# Altium schematic symbol library Connectors_Old.SchLib: 239 symbols (part 3 of 4)
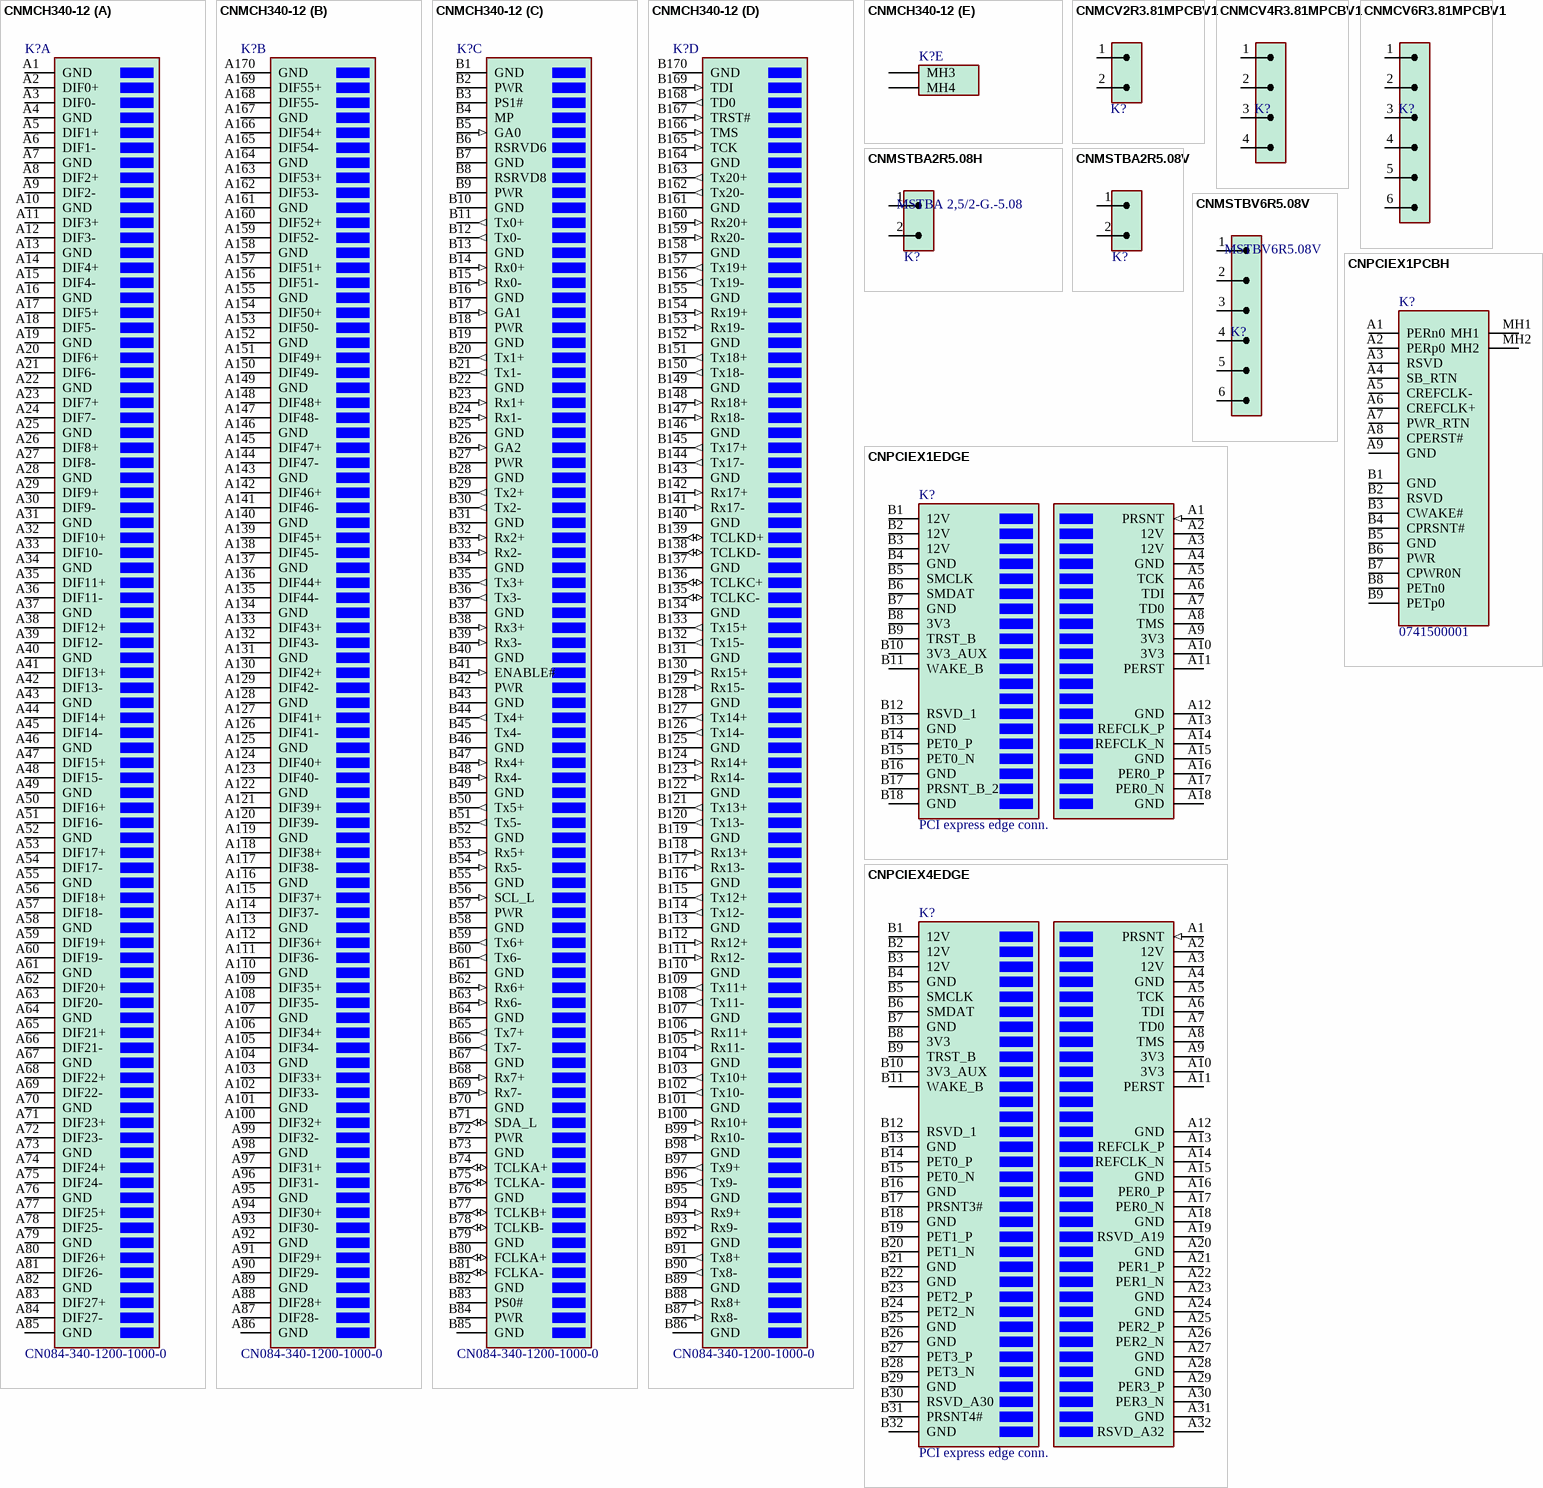
[diagram p18: symbols CNMCH340-12 to CNPCIEX4EDGE]

## CNMCH340-12
designator K?, comment CN084-340-1200-1000-0
MCH plug connector 340 pin; Manufacturer: Yamaichi; Sort: 610; Tech: MECH; Manufacturer No: CN084-340-1200-1000-0; Package: MCH connector 12; Price: 0
signal-integrity model Model Name (Model Description)
footprint CNMCH340 (MCH-2 horizontal connector plug 340 pin)
part A pins: A1 GND (power), A2 DIF0+, A3 DIF0-, A4 GND (power), A5 DIF1+, A6 DIF1-, A7 GND (power), A8 DIF2+, A9 DIF2-, A10 GND (power), A11 DIF3+, A12 DIF3-, A13 GND (power), A14 DIF4+, A15 DIF4-, A16 GND (power), A17 DIF5+, A18 DIF5-, A19 GND (power), A20 DIF6+, A21 DIF6-, A22 GND (power), A23 DIF7+, A24 DIF7-, A25 GND (power), A26 DIF8+, A27 DIF8-, A28 GND (power), A29 DIF9+, A30 DIF9-, A31 GND (power), A32 DIF10+, A33 DIF10-, A34 GND (power), A35 DIF11+, A36 DIF11-, A37 GND (power), A38 DIF12+, A39 DIF12-, A40 GND (power), A41 DIF13+, A42 DIF13-, A43 GND (power), A44 DIF14+, A45 DIF14-, A46 GND (power), A47 DIF15+, A48 DIF15-, A49 GND (power), A50 DIF16+, A51 DIF16-, A52 GND (power), A53 DIF17+, A54 DIF17-, A55 GND (power), A56 DIF18+, A57 DIF18-, A58 GND (power), A59 DIF19+, A60 DIF19-, A61 GND (power), A62 DIF20+, A63 DIF20-, A64 GND (power), A65 DIF21+, A66 DIF21-, A67 GND (power), A68 DIF22+, A69 DIF22-, A70 GND (power), A71 DIF23+, A72 DIF23-, A73 GND (power), A74 DIF24+, A75 DIF24-, A76 GND (power), A77 DIF25+, A78 DIF25-, A79 GND (power), A80 DIF26+, A81 DIF26-, A82 GND (power), A83 DIF27+, A84 DIF27-, A85 GND (power)
part B pins: A86 GND (power), A87 DIF28-, A88 DIF28+, A89 GND (power), A90 DIF29-, A91 DIF29+, A92 GND (power), A93 DIF30-, A94 DIF30+, A95 GND (power), A96 DIF31-, A97 DIF31+, A98 GND (power), A99 DIF32-, A100 DIF32+, A101 GND (power), A102 DIF33-, A103 DIF33+, A104 GND (power), A105 DIF34-, A106 DIF34+, A107 GND (power), A108 DIF35-, A109 DIF35+, A110 GND (power), A111 DIF36-, A112 DIF36+, A113 GND (power), A114 DIF37-, A115 DIF37+, A116 GND (power), A117 DIF38-, A118 DIF38+, A119 GND (power), A120 DIF39-, A121 DIF39+, A122 GND (power), A123 DIF40-, A124 DIF40+, A125 GND (power), A126 DIF41-, A127 DIF41+, A128 GND (power), A129 DIF42-, A130 DIF42+, A131 GND (power), A132 DIF43-, A133 DIF43+, A134 GND (power), A135 DIF44-, A136 DIF44+, A137 GND (power), A138 DIF45-, A139 DIF45+, A140 GND (power), A141 DIF46-, A142 DIF46+, A143 GND (power), A144 DIF47-, A145 DIF47+, A146 GND (power), A147 DIF48-, A148 DIF48+, A149 GND (power), A150 DIF49-, A151 DIF49+, A152 GND (power), A153 DIF50-, A154 DIF50+, A155 GND (power), A156 DIF51-, A157 DIF51+, A158 GND (power), A159 DIF52-, A160 DIF52+, A161 GND (power), A162 DIF53-, A163 DIF53+, A164 GND (power), A165 DIF54-, A166 DIF54+, A167 GND (power), A168 DIF55-, A169 DIF55+, A170 GND (power)
part C pins: B1 GND (power), B2 PWR (power) "12V", B3 PS1# "presence1", B4 MP (power) "3V3", B5 GA0 (in) "Gaddr0", B6 RSRVD6 "reserved", B7 GND (power), B8 RSRVD8 "reserved", B9 PWR (power) "12V", B10 GND (power), B11 Tx0+ (out) "out0", B12 Tx0- (out) "out0", B13 GND (power), B14 Rx0+ (in) "in0", B15 Rx0- (in) "in0", B16 GND (power), B17 GA1 (in) "Gaddr1", B18 PWR (power) "12V", B19 GND (power), B20 Tx1+ (out) "out1", B21 Tx1- (out) "out1", B22 GND (power), B23 Rx1+ (in) "in1", B24 Rx1- (in) "in1", B25 GND (power), B26 GA2 (in) "Gaddr2", B27 PWR (power) "12V", B28 GND (power), B29 Tx2+ (out) "out2", B30 Tx2- (out) "out2", B31 GND (power), B32 Rx2+ (in) "in2", B33 Rx2- (in) "in2", B34 GND (power), B35 Tx3+ (out) "out3", B36 Tx3- (out) "out3", B37 GND (power), B38 Rx3+ (in) "in3", B39 Rx3- (in) "in3", B40 GND (power), B41 ENABLE# (in) "AMC enable", B42 PWR (power) "12V", B43 GND (power), B44 Tx4+ (out) "out4", B45 Tx4- "out4", B46 GND (power), B47 Rx4+ (in) "in4", B48 Rx4- (in) "in4", B49 GND (power), B50 Tx5+ (out) "out5", B51 Tx5- (out) "out5", B52 GND (power), B53 Rx5+ (in) "in5", B54 Rx5- (in) "in5", B55 GND (power), B56 SCL_L (in) "IPMB clock", B57 PWR (power) "12V", B58 GND (power), B59 Tx6+ (out) "out6", B60 Tx6- (out) "out6", B61 GND (power), B62 Rx6+ (in) "in6", B63 Rx6- (in) "in6", B64 GND (power), B65 Tx7+ (out) "out7", B66 Tx7- (out) "out7", B67 GND (power), B68 Rx7+ (in) "in7", B69 Rx7- (in) "in7", B70 GND (power), B71 SDA_L (io) "IPMB data", B72 PWR (power) "12V", B73 GND (power), B74 TCLKA+ (io) "clk", B75 TCLKA- (io) "clk", B76 GND (power), B77 TCLKB+ (io) "clk", B78 TCLKB- (io) "clk", B79 GND (power), B80 FCLKA+ (io) "clk", B81 FCLKA- (io) "clk", B82 GND (power), B83 PS0# "presence0", B84 PWR (power) "12V", B85 GND (power)
part D pins: B86 GND (power), B87 Rx8- (in) "in8", B88 Rx8+ (in) "in8", B89 GND (power), B90 Tx8- (out) "out8", B91 Tx8+ (out) "out8", B92 GND (power), B93 Rx9- (in) "in9", B94 Rx9+ (in) "in9", B95 GND (power), B96 Tx9- (out) "out9", B97 Tx9+ (out) "out9", B98 GND (power), B99 Rx10- (in) "in10", B100 Rx10+ (in) "in10", B101 GND (power), B102 Tx10- (out) "out10", B103 Tx10+ (out) "out10", B104 GND (power), B105 Rx11- (in) "in11", B106 Rx11+ (in) "in11", B107 GND (power), B108 Tx11- (out) "out11", B109 Tx11+ (out) "out11", B110 GND (power), B111 Rx12- (in) "in12", B112 Rx12+ (in) "in12", B113 GND (power), B114 Tx12- (out) "out12", B115 Tx12+ (out) "out12", B116 GND (power), B117 Rx13- (in) "in13", B118 Rx13+ (in) "in13", B119 GND (power), B120 Tx13- (out) "out13", B121 Tx13+ (out) "out13", B122 GND (power), B123 Rx14- (in) "in14", B124 Rx14+ (in) "in14", B125 GND (power), B126 Tx14- (out) "out14", B127 Tx14+ (out) "out14", B128 GND (power), B129 Rx15- (in) "in15", B130 Rx15+ (in) "in15", B131 GND (power), B132 Tx15- (out) "out15", B133 Tx15+ (out) "out15", B134 GND (power), B135 TCLKC- (io) "clk", B136 TCLKC+ (io) "clk", B137 GND (power), B138 TCLKD- (io) "clk", B139 TCLKD+ (io) "clk", B140 GND (power), B141 Rx17- (in) "in17", B142 Rx17+ (in) "in17", B143 GND (power), B144 Tx17- (out) "out17", B145 Tx17+ (out) "out17", B146 GND (power), B147 Rx18- (in) "in18", B148 Rx18+ (in) "in18", B149 GND (power), B150 Tx18- (out) "out18", B151 Tx18+ (out) "out18", B152 GND (power), B153 Rx19- (in) "in19", B154 Rx19+ (in) "in19", B155 GND (power), B156 Tx19- (out) "out19", B157 Tx19+ (out) "out19", B158 GND (power), B159 Rx20- (in) "in20", B160 Rx20+ (in) "in20", B161 GND (power), B162 Tx20- (out) "out20", B163 Tx20+ (out) "out20", B164 GND (power), B165 TCK (in) "in", B166 TMS (in) "in", B167 TRST# (in) "in", B168 TD0 (out) "out", B169 TDI (in) "in", B170 GND (power)
part E pins: ? MH3, ? MH4

## CNMCV2R3.81MPCBV1
designator K?, comment MCV1.5/2-G-3.81  (value not drawn)
Combicon header 2 pin vertical closed R3.81mm; Manufacturer: PhoenixContact; Manufacturer No: 1843606; Sort: 610; Tech: THDW; Price: 0
footprint MCV1.5/2G-3.81 (COMBICON 2 POL VER 3.81mm)
pins: 1, 2

## CNMCV4R3.81MPCBV1
designator K?, comment MCV1.5/4-G-3.81  (value not drawn)
Combicon header 4 pin vertical closed R3.81mm; Manufacturer: PhoenixContact, Farnell; Manufacturer No: 1803442, 3913144; Comment2: 160V, 8A; Sort: 610; Tech: THDW; Package: CN MCV6G; Price: 0.66
footprint MCV1.5/4G-3.81 (COMBICON 4pin vertical  R3.81mm)
pins: 1, 2, 3, 4

## CNMCV6R3.81MPCBV1
designator K?, comment MCV1.5/6-G-3.81  (value not drawn)
Combicon header 6 pin vertical closed R3.81mm; Manufacturer: PhoenixContact, Farnell; Manufacturer No: 1843648, 3704853; Sort: 610; Tech: THDW; Package: CN MCV6G; Price: 0
footprint MCV1.5/6G-3.81 (COMBICON 6 POL VER 3.81mm)
pins: 1, 2, 3, 4, 5, 6

## CNMSTBA2R5.08H
designator K?, comment MSTBA 2,5/2-G.-5.08
Pin Header 1x4 R2.54mm; Manufacturer: Phoenix Contact; Manufacturer No: 17 57 24 2; Sort: 610; Tech: THDW; Package: CN MSTBA2pin; Price: 0
footprint MSTBA/2G-5.08 (MSTBA2.5/2G-5.08  2pin)
pins: 1, 2

## CNMSTBA2R5.08V
designator K?, comment MSTBA2R5.08V  (value not drawn)
Combicon header 2 pin vertical closed R5.08mm; Manufacturer: Phoenix Contact; Manufacturer No: 1755736; Comment2: 12A 300V; Sort: 610; Tech: THDW; Package: MSTBA5.08R; Price: 0.56; Supplier: Digi-Key; Supplier No: 277-1150-ND
footprint CN_PHOENIX_MSTBVA2,5/2-G-5,08 (MSTBVA2,5/2-G-5,08  2pin vertical)
pins: 1, 2

## CNMSTBV6R5.08V
designator K?, comment MSTBV6R5.08V
Combicon header 6 pin vertical closed R5.08mm; Manufacturer: Phoenix Contact; Manufacturer No: 1755778; Comment2: 12A 250V; Sort: 610; Tech: THDW; Package: CN MSTBA3H; Price: 1.67; Supplier: Digi-Key; Supplier No: 277-1154-ND
footprint CN_PHOENIX_MSTBVA2,5/6-G-5,08 (MSTBVA2,5/6-G-5,08  6pin vertical)
pins: 1, 2, 3, 4, 5, 6

## CNPCIEX1EDGE
designator K?, comment PCI express edge conn.  (no BOM)
PCI express edge connector X1; Price: 0
signal-integrity model Model Name (Model Description)
footprint CNPCIEX1EDGE (PCIexpress connector for board edge 2x18 pin (11+7))
pins: A1 PRSNT (in), A2 12V (power), A3 12V (power), A4 GND (power), A5 TCK, A6 TDI, A7 TD0, A8 TMS, A9 3V3 (power), A10 3V3 (power), A11 PERST, A12 GND (power), A13 REFCLK_P, A14 REFCLK_N, A15 GND (power), A16 PER0_P, A17 PER0_N, A18 GND (power), B1 12V (power), B2 12V (power), B3 12V (power), B4 GND (power), B5 SMCLK, B6 SMDAT, B7 GND (power), B8 3V3 (power), B9 TRST_B, B10 3V3_AUX (power), B11 WAKE_B, B12 RSVD_1, B13 GND (power), B14 PET0_P, B15 PET0_N, B16 GND (power), B17 PRSNT_B_2, B18 GND (power)

## CNPCIEX1PCBH
designator K?, comment 0741500001
PCI express X1 18-pin PCB horizontal connector; Manufacturer: Molex; Sort: 610; Tech: SMDR; Manufacturer No: 0741500001; Price: 0
footprint CNPCIE_X1_18H (Connector PCI Express Horizontal female, SMTP; 18 pin; R0.64 mm; Body 30.48 x 13.79 x 7.65 mm (LxWxH))
pins: A1 PERn0, A2 PERp0, A3 RSVD, A4 SB_RTN, A5 CREFCLK-, A6 CREFCLK+, A7 PWR_RTN, A8 CPERST#, A9 GND, B1 GND, B2 RSVD, B3 CWAKE#, B4 CPRSNT#, B5 GND, B6 PWR, B7 CPWR0N, B8 PETn0, B9 PETp0, MH1, MH2

## CNPCIEX4EDGE
designator K?, comment PCI express edge conn.  (no BOM)
PCI express edge connector X4; Price: 0
signal-integrity model Model Name (Model Description)
footprint CNPCIEX4EDGE (PCIexpress connector for board edge 2x18 pin (11+7))
pins: A1 PRSNT (in), A2 12V (power), A3 12V (power), A4 GND (power), A5 TCK, A6 TDI, A7 TD0, A8 TMS, A9 3V3 (power), A10 3V3 (power), A11 PERST, A12 GND (power), A13 REFCLK_P, A14 REFCLK_N, A15 GND (power), A16 PER0_P, A17 PER0_N, A18 GND (power), A19 RSVD_A19, A20 GND (power), A21 PER1_P, A22 PER1_N, A23 GND (power), A24 GND (power), A25 PER2_P, A26 PER2_N, A27 GND (power), A28 GND (power), A29 PER3_P, A30 PER3_N, A31 GND (power), A32 RSVD_A32, B1 12V (power), B2 12V (power), B3 12V (power), B4 GND (power), B5 SMCLK, B6 SMDAT, B7 GND (power), B8 3V3 (power), B9 TRST_B, B10 3V3_AUX (power), B11 WAKE_B, B12 RSVD_1, B13 GND (power), B14 PET0_P, B15 PET0_N, B16 GND (power), B17 PRSNT3#, B18 GND (power), B19 PET1_P, B20 PET1_N, B21 GND (power), B22 GND (power), B23 PET2_P, B24 PET2_N, B25 GND (power), B26 GND (power), B27 PET3_P, B28 PET3_N, B29 GND (power), B30 RSVD_A30, B31 PRSNT4#, B32 GND (power)

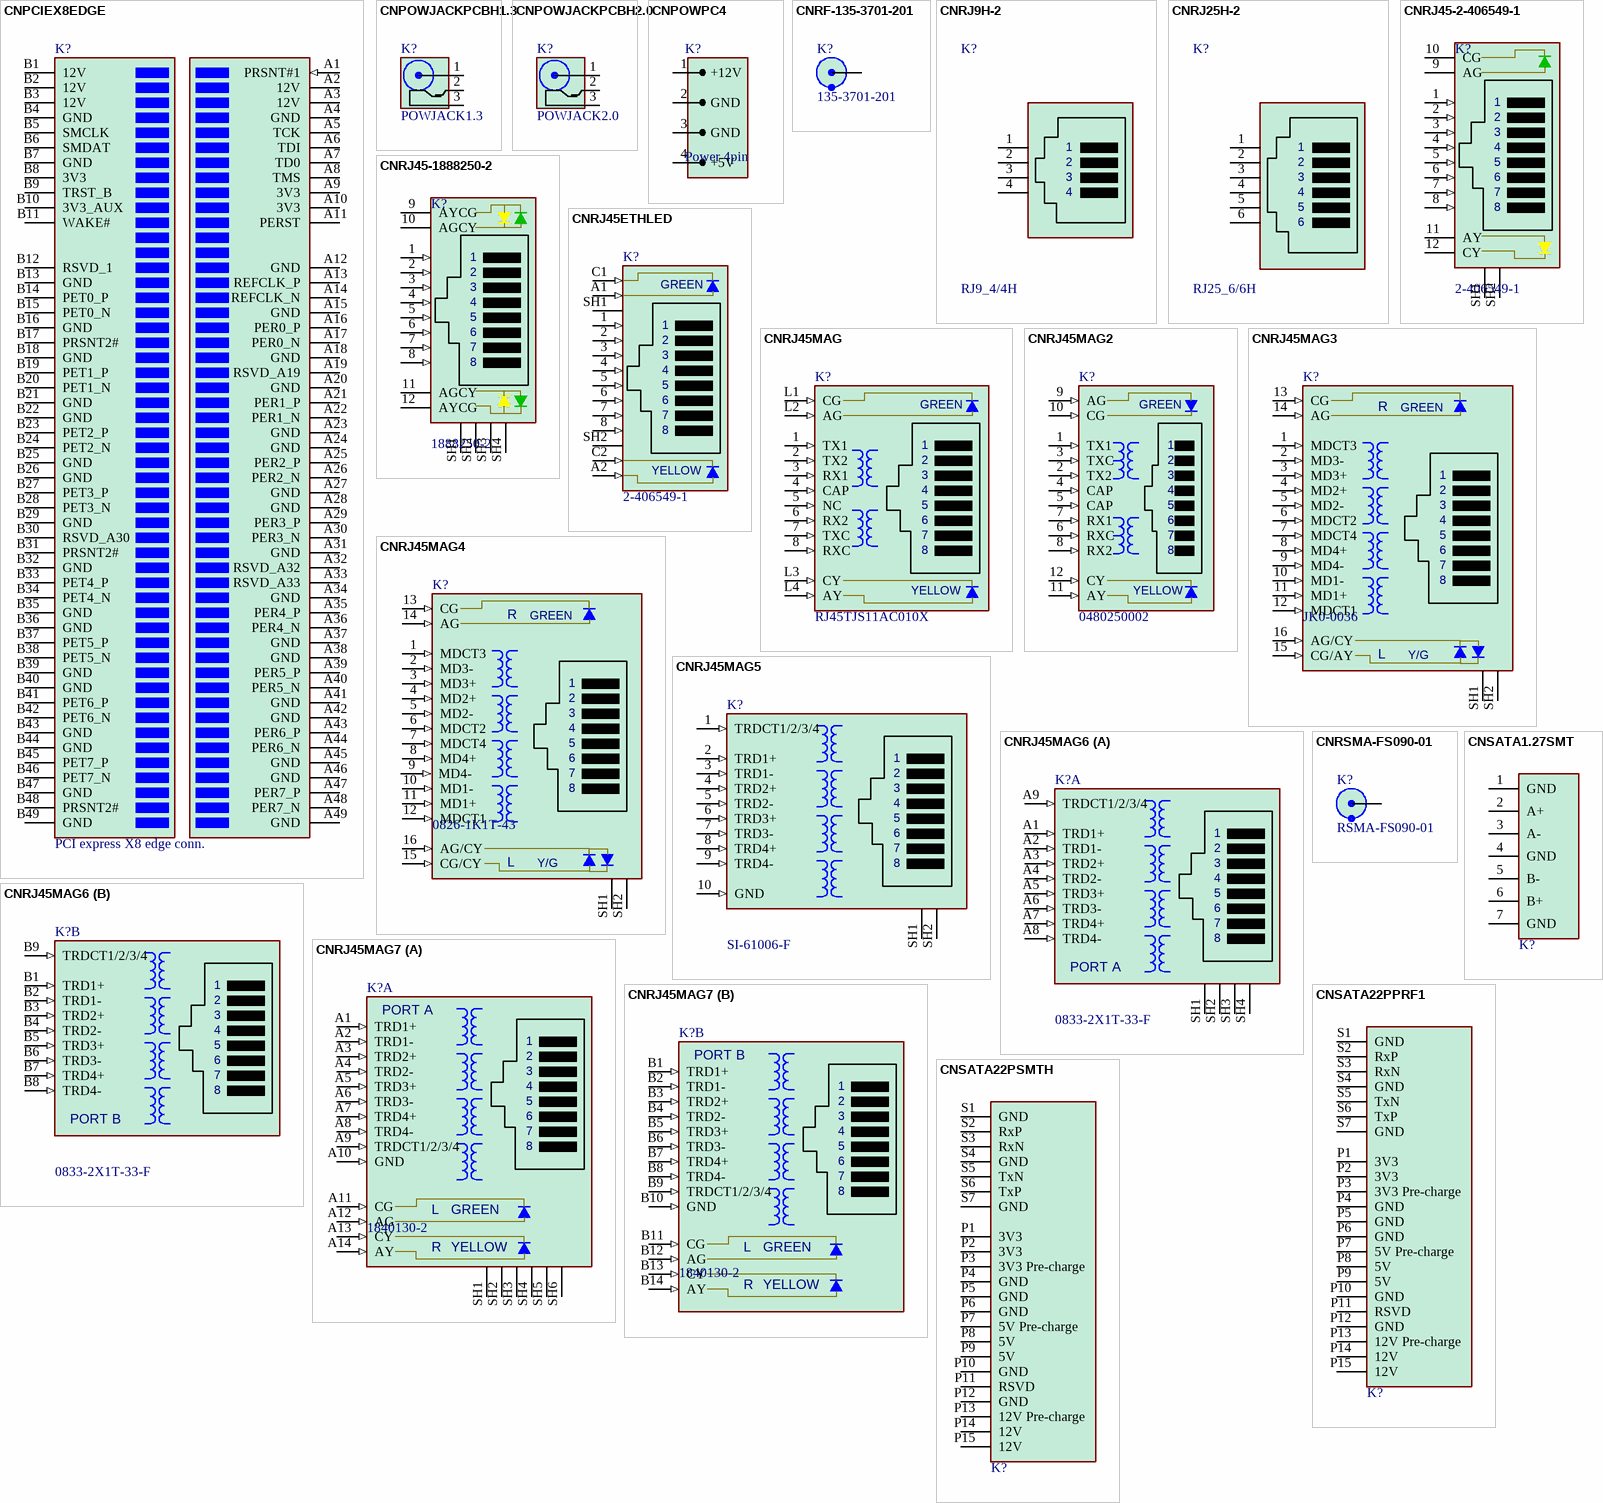
[diagram p12: symbols CNPCIEX8EDGE to CNSATA22PSMTH]

## CNPCIEX8EDGE
designator K?, comment PCI express X8 edge conn.  (no BOM)
PCI express edge connector X8; Price: 0
signal-integrity model Model Name (Model Description)
footprint CNPCIEX8EDGE (PCIexpress connector for board edge 2x49 pin)
pins: A1 PRSNT#1 (in), A2 12V (power), A3 12V (power), A4 GND (power), A5 TCK, A6 TDI, A7 TD0, A8 TMS, A9 3V3 (power), A10 3V3 (power), A11 PERST, A12 GND (power), A13 REFCLK_P, A14 REFCLK_N, A15 GND (power), A16 PER0_P, A17 PER0_N, A18 GND (power), A19 RSVD_A19, A20 GND (power), A21 PER1_P, A22 PER1_N, A23 GND (power), A24 GND (power), A25 PER2_P, A26 PER2_N, A27 GND (power), A28 GND (power), A29 PER3_P, A30 PER3_N, A31 GND (power), A32 RSVD_A32, A33 RSVD_A33, A34 GND (power), A35 PER4_P, A36 PER4_N, A37 GND (power), A38 GND (power), A39 PER5_P, A40 PER5_N, A41 GND (power), A42 GND (power), A43 PER6_P, A44 PER6_N, A45 GND (power), A46 GND (power), A47 PER7_P, A48 PER7_N, A49 GND (power), B1 12V (power), B2 12V (power), B3 12V (power), B4 GND (power), B5 SMCLK, B6 SMDAT, B7 GND (power), B8 3V3 (power), B9 TRST_B, B10 3V3_AUX (power), B11 WAKE#, B12 RSVD_1, B13 GND (power), B14 PET0_P, B15 PET0_N, B16 GND (power), B17 PRSNT2#, B18 GND (power), B19 PET1_P, B20 PET1_N, B21 GND (power), B22 GND (power), B23 PET2_P, B24 PET2_N, B25 GND (power), B26 GND (power), B27 PET3_P, B28 PET3_N, B29 GND (power), B30 RSVD_A30, B31 PRSNT2#, B32 GND (power), B33 PET4_P, B34 PET4_N, B35 GND (power), B36 GND (power), B37 PET5_P, B38 PET5_N, B39 GND (power), B40 GND (power), B41 PET6_P, B42 PET6_N, B43 GND (power), B44 GND (power), B45 PET7_P, B46 PET7_N, B47 GND (power), B48 PRSNT2#, B49 GND (power)

## CNPOWJACKPCBH1.3
designator K?, comment POWJACK1.3
DC power jack 6.5x2mm 9x11x15mm; Manufacturer: Shallin; Sort: 610; Tech: THDW; Price: 0
signal-integrity model Model Name (Model Description)
footprint DCPOWJACK1.3 (DC POWER JACK 11.5x5x7.5x1.3mm)
pins: 1, 2, 3

## CNPOWJACKPCBH2.0
designator K?, comment POWJACK2.0
DC power jack 6.5x2mm 9x11x15mm; Manufacturer No: K375A; Manufacturer: Shallin; Sort: 610; Tech: THDW; Price: 0
signal-integrity model Model Name (Model Description)
footprint DCPOWJACK2.0 (DC POWER JACK 9X11X15 6.5X2mm)
pins: 1, 2, 3

## CNPOWPC4
designator K?, comment Power 4pin
Connector PC power 4 pin for disc; Manufacturer: Molex; Sort: 610; Tech: THDW; Manufacturer No: 15-24-4449; Price: 0
footprint CNPC4POWV (PC power  connector 4 pin)
pins: 1 +12V (power), 2 GND (power), 3 GND (power), 4 +5V (power)

## CNRF-135-3701-201
designator K?, comment 135-3701-201
MMCX connector PCB vertical Jack; Manufacturer: Emerson; Sort: 610; Tech: SMD; Manufacturer No: 135-3701-201; Comment2: MMCX; Package: CN MMCX PCB Vert; Price: 4.37; Supplier: Digi-Key; Supplier No: J597-ND
footprint MMCX-135-3701-201 (MMCX Jack, PCB Vertical)
pins: 1, 2, 3, 4, 5

## CNRJ9H-2
designator K?, comment RJ9_4/4H
RJ9 modular jack 4/4 pin horizontal; Manufacturer No: 0-0215875-1; Manufacturer: Tyco; Sort: 610; Tech: THDW; Price: 0
footprint CNRJ9H-2 (4 pin horizontal PCB RJ connector R1.27)
pins: 1, 2, 3, 4

## CNRJ25H-2
designator K?, comment RJ25_6/6H
RJ25 modular jack 6/6 pin horizontal MRJ21; Manufacturer No: 0215876-1, 3363132; Manufacturer: Tyco, Farnell; Comment2: 100V 1A Cat3; Sort: 610; Tech: THDW; Package: CN RJ25Hor; Price: 0.6
footprint CNRJ25H-2 (6 pin horizontal PCB RJ connector R1.27)
pins: 1, 2, 3, 4, 5, 6

## CNRJ45-2-406549-1
designator K?, comment 2-406549-1
RJ45 modular jack inverted 2Led; Manufacturer No: 2-406549-1, 1162483; Manufacturer: Tyco, Farnell; Comment2: THT RJ45 8 pin CAT5 1.5A 150V; Sort: 615; Tech: THDW; Package: CN RJ45 8pin; Price: 2.7
footprint CN2-406549-1 (Connector RJ45 for AMC 8pin pressfit 15.75x16.3x13.97)
pins: 1 (in), 2 (in), 3 (in), 4 (in), 5 (in), 6 (in), 7 (in), 8 (in), 9 AG, 10 CG, 11 AY, 12 CY, SH1 SHIELD, SH2 SHIELD
1 alternate drawing of the same symbol

## CNRJ45-1888250-2
designator K?, comment 1888250-2
RJ45 modular for AMC module; Manufacturer No: 1888250-2, 1527884; Manufacturer: Tyco, Farnell; Comment2: Pressfit RJ45 8 pin CAT5; Sort: 615; Tech: PFIT; Package: CN RJ45 8pin; Price: 5.4
footprint CN1888250-2 (Connector RJ45 for AMC 8pin pressfit 26.2x16.3x11.6)
pins: 1 (in), 2 (in), 3 (in), 4 (in), 5 (in), 6 (in), 7 (in), 8 (in), 9 AYCG, 10 AGCY, 11 AGCY, 12 AYCG, SH1 SHIELD, SH2 SHIELD, SH3 SHIELD, SH4 SHIELD
1 alternate drawing of the same symbol

## CNRJ45ETHLED
designator K?, comment 2-406549-1
RJ45 modular jack included magnetics 10/100 Base-Tx; Manufacturer: Conec; Sort: 610; Tech: THDW; Manufacturer No: 2-406549-1; Price: 0
footprint CNRJ45ETH1 (Ethernet connector horizontal short)
pins: 1 (in), 2 (in), 3 (in), 4 (in), 5 (in), 6 (in), 7 (in), 8 (in), A1 (in), A2 (in), C1 (in), C2 (in), SH1, SH2
text: GREEN; YELLOW

## CNRJ45MAG
designator K?, comment RJ45TJS11AC010X
RJ45 modular jack included magnetics 10/100 Base-Tx; Manufacturer: Conec; Sort: 610; Tech: THDW; Manufacturer No: RJ45TJS11AC010X; Price: 0
footprint CNRJ45MAG1 (Ethernet connector with magnetics and 2 LED)
pins: 1 TX1 (in), 2 TX2 (in), 3 RX1 (in), 4 CAP (in), 5 NC (in), 6 RX2 (in), 7 TXC (in), 8 RXC (in), L1 CG (in), L2 AG (in), L3 CY (in), L4 AY (in)
text: GREEN; YELLOW

## CNRJ45MAG2
designator K?, comment 0480250002
RJ45 modular jack included magnetics 10/100 Base-Tx; Manufacturer: Molex; Sort: 610; Tech: THDW; Manufacturer No: 0480250002; Price: 0
footprint CNRJ45MAG2 (Ethernet connector with magnetics and 2 LED molex 480250002)
pins: 1 TX1 (in), 2 TX2 (in), 3 TXC (in), 4 CAP (in), 5 CAP (in), 6 RXC (in), 7 RX1 (in), 8 RX2 (in), 9 AG (in), 10 CG (in), 11 AY (in), 12 CY (in)
text: GREEN; YELLOW

## CNRJ45MAG3
designator K?, comment JK0-0036
RJ45 modular jack included magnetics 10/100/1000 Base-Tx; Manufacturer No: JK0-0036NL, 0826-1X1T-43-F; Manufacturer: Pulse, Bel; Sort: 610; Tech: THDW; Package: CN RJ45 +MAG; Price: 0
footprint CNRJ45MAG3 (Ethernet connector with magnetics and 3 LED)
pins: 1 MDCT3 (in), 2 MD3- (in), 3 MD3+ (in), 4 MD2+ (in), 5 MD2- (in), 6 MDCT2 (in), 7 MDCT4 (in), 8 MD4+ (in), 9 MD4- (in), 10 MD1- (in), 11 MD1+ (in), 12 MDCT1 (in), 13 CG (in), 14 AG (in), 15 CG/AY (in), 16 AG/CY (in), SH1, SH2
text: R; GREEN; L; Y/G

## CNRJ45MAG4
designator K?, comment 0826-1K1T-43
RJ45 modular jack included magnetics 10/100/1000 Base-Tx; Manufacturer: Bel; Sort: 610; Tech: THDW; Manufacturer No: 0826-1K1T-43; Package: CN RJ45 +MAG; Price: 0
footprint CNRJ45MAG4 (Ethernet connector with magnetics and 3 LED)
pins: 1 MDCT3 (in), 2 MD3- (in), 3 MD3+ (in), 4 MD2+ (in), 5 MD2- (in), 6 MDCT2 (in), 7 MDCT4 (in), 8 MD4+ (in), 9 MD4- (in), 10 MD1- (in), 11 MD1+ (in), 12 MDCT1 (in), 13 CG (in), 14 AG (in), 15 CG/CY (in), 16 AG/CY (in), SH1, SH2
text: R; GREEN; L; Y/G

## CNRJ45MAG5
designator K?, comment SI-61006-F
RJ45 modular jack included magnetics 10/100/1000 Base-Tx; Manufacturer: BelFuse; Sort: 610; Tech: THDW; Manufacturer No: SI-61006-F; Package: CN RJ45 +MAG; Price: 0
footprint CNRJ45MAG5 (Ethernet connector with magnetics)
pins: 1 TRDCT1/2/3/4 (in), 2 TRD1+ (in), 3 TRD1- (in), 4 TRD2+ (in), 5 TRD2- (in), 6 TRD3+ (in), 7 TRD3- (in), 8 TRD4+ (in), 9 TRD4- (in), 10 GND (in), SH1, SH2

## CNRJ45MAG6
designator K?, comment 0833-2X1T-33-F
RJ45 modular double jack included magnetics GBE; Manufacturer: BelFuse; Sort: 610; Tech: THDW; Manufacturer No: 0833-2X1T-33-F; Package: CN RJ45 +MAG; Price: 0
footprint CNRJ45MAG6 (Ethernet 2X1 connector with magnetics and 4 LED)
part A pins: A1 TRD1+ (in), A2 TRD1- (in), A3 TRD2+ (in), A4 TRD2- (in), A5 TRD3+ (in), A6 TRD3- (in), A7 TRD4+ (in), A8 TRD4- (in), A9 TRDCT1/2/3/4 (in), SH1, SH2, SH3, SH4
part B pins: B1 TRD1+ (in), B2 TRD1- (in), B3 TRD2+ (in), B4 TRD2- (in), B5 TRD3+ (in), B6 TRD3- (in), B7 TRD4+ (in), B8 TRD4- (in), B9 TRDCT1/2/3/4 (in)
part A text: 1; 2; 3; 4; 5; 6; 7; 8; PORT A
part B text: 1; 2; 3; 4; 5; 6; 7; 8; PORT B

## CNRJ45MAG7
designator K?, comment 1840130-2
RJ45 modular double jack included magnetics GBE; Manufacturer: Tyco; Comment2: 2x Green+Yellow LED; Sort: 610; Tech: THDW; Manufacturer No: 1840130-2; Package: CN 2xRJ45 +MAG; Price: 0
footprint CNRJ45MAG7 (Ethernet 2X1 connector with magnetics and 4 LED)
part A pins: A1 TRD1+ (in), A2 TRD1- (in), A3 TRD2+ (in), A4 TRD2- (in), A5 TRD3+ (in), A6 TRD3- (in), A7 TRD4+ (in), A8 TRD4- (in), A9 TRDCT1/2/3/4 (in), A10 GND (in), A11 CG (in), A12 AG (in), A13 CY (in), A14 AY (in), SH1, SH2, SH3, SH4, SH5, SH6
part B pins: B1 TRD1+ (in), B2 TRD1- (in), B3 TRD2+ (in), B4 TRD2- (in), B5 TRD3+ (in), B6 TRD3- (in), B7 TRD4+ (in), B8 TRD4- (in), B9 TRDCT1/2/3/4 (in), B10 GND (in), B11 CG (in), B12 AG (in), B13 CY (in), B14 AY (in)
part A text: PORT A; 1; 2; 3; 4; 5; 6; 7; 8; L; GREEN; R; YELLOW
part B text: PORT B; 1; 2; 3; 4; 5; 6; 7; 8; L; GREEN; R; YELLOW

## CNRSMA-FS090-01
designator K?, comment RSMA-FS090-01
SMA connector PCB mount jack vertical Female; Manufacturer No: RSMA-PCB-FS090-01; Manufacturer: Sunny Young Enterprise Co., Ltd.; Sort: 610; Tech: THDW; Package: CN SMA vert; Price: 0
signal-integrity model Model Name (Model Description)
footprint CNRSMA-PCB-FS090-01 (SMA vertical 7x7mm R5mm)
pins: 1, 2, 3, 4, 5

## CNSATA1.27SMT
designator K?  (value not drawn)
SATA 7-pin 1.27mm pitch vertical SMT connector; Manufacturer: Molex; Manufacturer No: 0678001001; Sort: 610; Tech: THDW; Price: 0
pins: 1 GND, 2 A+, 3 A-, 4 GND, 5 B-, 6 B+, 7 GND

## CNSATA22PPRF1
designator K?, comment 87701-1001  (value not drawn)
Micro SATA 22-pin 1.27mm pitch vertical press-fit connector; Manufacturer: Molex; Comment2: Vertical press-fit 22pin SATA PCB Receptacle; Sort: 610; Tech: THDW; Manufacturer No: 87701-1001; Price: 0
footprint CNSATA22PPRF1 (Connector SATA Vertical, PRSF; 22 pin; R1.27 mm; Body 42.37 x 6 x 9.85 mm (LxWxH))
pins: P1 3V3 (power), P2 3V3 (power), P3 3V3 Pre-charge (power), P4 GND (power), P5 GND (power), P6 GND (power), P7 5V Pre-charge (power), P8 5V (power), P9 5V (power), P10 GND (power), P11 RSVD (power), P12 GND (power), P13 12V Pre-charge (power), P14 12V (power), P15 12V (power), S1 GND, S2 RxP, S3 RxN, S4 GND, S5 TxN, S6 TxP, S7 GND

## CNSATA22PSMTH
designator K?  (value not drawn)
Micro SATA 22-pin 1.27mm pitch horizontal SMT connector; Manufacturer: Molex; Manufacturer No: 67492-9220; Sort: 610; Tech: THDW; Price: 0
footprint CNSATA22PSMTH (Connector SATA Horizontal, SMTP; 22 pin; R1.27 mm; Body 40.43 x 12.87 x 6.74 mm (LxWxH))
pins: P1 3V3 (power), P2 3V3 (power), P3 3V3 Pre-charge (power), P4 GND (power), P5 GND (power), P6 GND (power), P7 5V Pre-charge (power), P8 5V (power), P9 5V (power), P10 GND (power), P11 RSVD (power), P12 GND (power), P13 12V Pre-charge (power), P14 12V (power), P15 12V (power), S1 GND, S2 RxP, S3 RxN, S4 GND, S5 TxN, S6 TxP, S7 GND

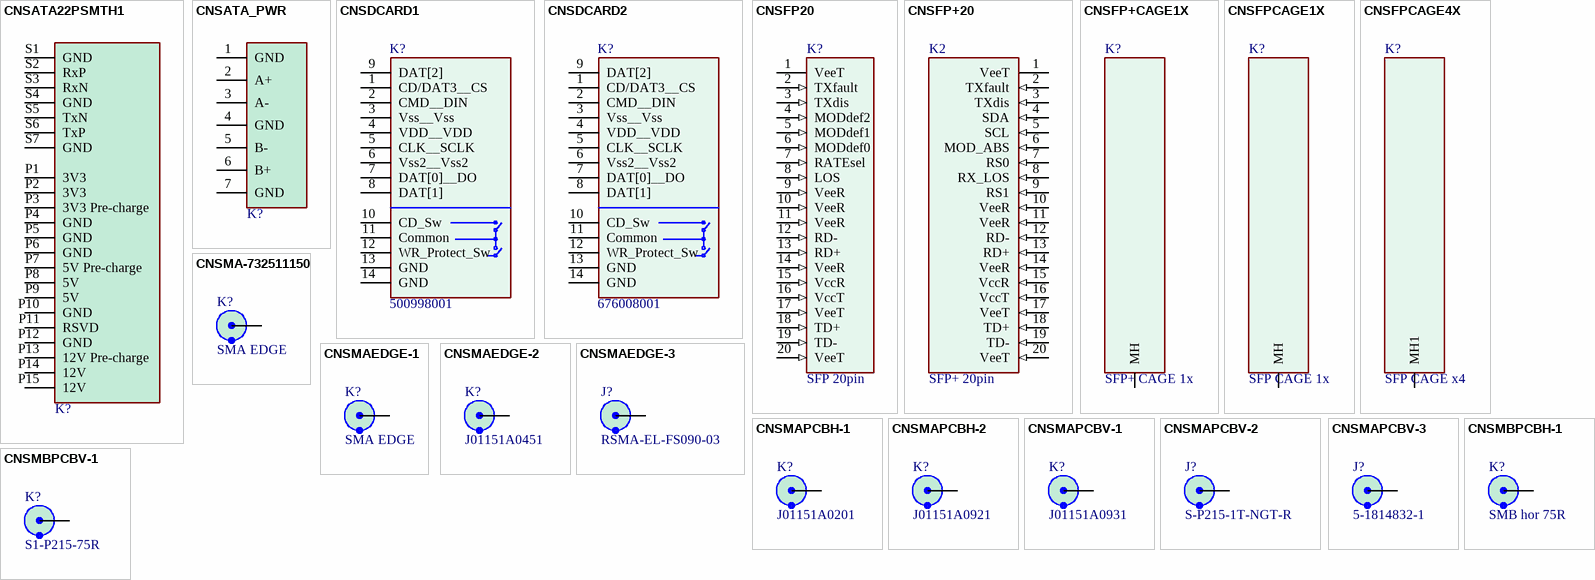
[diagram p13: symbols CNSATA22PSMTH1 to CNSMBPCBV-1]

## CNSATA22PSMTH1
designator K?, comment 47018-2001  (value not drawn)
Micro SATA 22-pin 1.27mm pitch horizontal SMT connector; Manufacturer: Molex; Sort: 610; Tech: THDW; Manufacturer No: 47018-2001; Price: 0
footprint CNSATA22PSMTH_1 (Connector SATA Horizontal, SMTP; 22 pin; R1.27 mm; Body 40.43 x 12.87 x 4.30 mm (LxWxH))
pins: P1 3V3 (power), P2 3V3 (power), P3 3V3 Pre-charge (power), P4 GND (power), P5 GND (power), P6 GND (power), P7 5V Pre-charge (power), P8 5V (power), P9 5V (power), P10 GND (power), P11 RSVD (power), P12 GND (power), P13 12V Pre-charge (power), P14 12V (power), P15 12V (power), S1 GND, S2 RxP, S3 RxN, S4 GND, S5 TxN, S6 TxP, S7 GND

## CNSATA_PWR
designator K?  (value not drawn)
SATA PWR connector; Manufacturer: Molex; Manufacturer No: 0678001001; Sort: 610; Tech: THDW; Price: 0
pins: 1 GND, 2 A+, 3 A-, 4 GND, 5 B-, 6 B+, 7 GND

## CNSDCARD1
designator K?, comment 500998001
Connector SD card; Manufacturer: Molex; Sort: 610; Tech: SMDR; Manufacturer No: 500998001; Price: 0
signal-integrity model Model Name (Model Description)
footprint CN500998001 (Molex SD 500998001)
pins: 1 CD/DAT3__CS, 2 CMD__DIN, 3 Vss__Vss, 4 VDD__VDD, 5 CLK__SCLK, 6 Vss2__Vss2, 7 DAT[0]__DO, 8 DAT[1], 9 DAT[2], 10 CD_Sw, 11 Common, 12 WR_Protect_Sw, 13 GND, 14 GND

## CNSDCARD2
designator K?, comment 676008001
Connector SD card; Manufacturer: Molex; Sort: 610; Tech: SMDR; Manufacturer No: 676008001; Price: 0
signal-integrity model Model Name (Model Description)
footprint CN676008001 (Molex SD 676008001)
pins: 1 CD/DAT3__CS, 2 CMD__DIN, 3 Vss__Vss, 4 VDD__VDD, 5 CLK__SCLK, 6 Vss2__Vss2, 7 DAT[0]__DO, 8 DAT[1], 9 DAT[2], 10 CD_Sw, 11 Common, 12 WR_Protect_Sw, 13 GND, 14 GND

## CNSFP20
designator K?, comment SFP 20pin
Connector SFP 20 pin SMD; Sort: 610; Tech: SMDR; Price: 0
signal-integrity model Model Name (Model Description)
footprint CNSFP20 (SFP Transciever 20 pin)
pins: 1 VeeT, 2 TXfault (in), 3 TXdis (in), 4 MODdef2 (in), 5 MODdef1 (in), 6 MODdef0 (in), 7 RATEsel (in), 8 LOS (in), 9 VeeR (in), 10 VeeR (in), 11 VeeR (in), 12 RD- (in), 13 RD+ (in), 14 VeeR (in), 15 VccR (in), 16 VccT (in), 17 VeeT (in), 18 TD+ (in), 19 TD- (in), 20 VeeT (in)

## CNSFP+20
designator K2, comment SFP+ 20pin
Connector SFP+ 20 pin SMD; Manufacturer: Tyco, Farnell; Manufacturer No: 1888247-1, 1654067; Comment2: 30um Au; Sort: 610; Tech: SMDR; Package: CN SFP+ 20pin; Price: 4.65
signal-integrity model Model Name (Model Description)
footprint CNSFP20+ (SFP Transciever 20 pin Tyco 18888247-1)
pins: 1 VeeT, 2 TXfault (in), 3 TXdis (in), 4 SDA (in), 5 SCL (in), 6 MOD_ABS (in), 7 RS0 (in), 8 RX_LOS (in), 9 RS1 (in), 10 VeeR (in), 11 VeeR (in), 12 RD- (in), 13 RD+ (in), 14 VeeR (in), 15 VccR (in), 16 VccT (in), 17 VeeT (in), 18 TD+ (in), 19 TD- (in), 20 VeeT (in)

## CNSFP+CAGE1X
designator K?, comment SFP+ CAGE 1x
Manufacturer: Tyco, Farnell; Manufacturer No: 2007198-1, 1755773; Comment2: Press fit; Sort: 610; Tech: PFIT; Package: SFP+ Cage1x PF; Price: 5
signal-integrity model Model Name (Model Description)
footprint SFP+COVER1X (SFP+ Cage Tyco 2007198-1)
pins: 1 MH

## CNSFPCAGE1X
designator K?, comment SFP CAGE 1x
Connector SFP 20 pin SMD; Sort: 610; Tech: SMDR; Price: 0
signal-integrity model Model Name (Model Description)
footprint SFP-COVER
pins: 1 MH

## CNSFPCAGE4X
designator K?, comment SFP CAGE x4
Manufacturer: Tyco; Manufacturer No: 1658744-1; Sort: 610; Tech: SMDR; Price: 0
signal-integrity model Model Name (Model Description)
footprint SFP-COVERX4
pins: MH1

## CNSMA-732511150
designator K?, comment SMA EDGE
SMA connector PCB Edge horizontal Female 1.6mm; Manufacturer No: 732511150, 538-73251-1150; Manufacturer: Molex, Mouser; Sort: 610; Tech: THDM; Package: CN SMA edge; Price: 2,5
signal-integrity model Model Name (Model Description)
footprint CNSMAPCBEDGEC2 (SMA PCB edge female W9.54mm)
pins: 1, 2 GND

## CNSMAEDGE-1
designator K?, comment SMA EDGE
SMA connector PCB Edge horizontal Female 1.6mm; Manufacturer No: 1367-000-G91P-20; Manufacturer: Delta Electronics Manufacturing; Sort: 610; Tech: THDM; Price: 0
signal-integrity model Model Name (Model Description)
footprint CNSMAPCBEDGE (SMA PCB edge female)
pins: 1, 2, 3, 4, 5

## CNSMAEDGE-2
designator K?, comment J01151A0451
SMA connector PCB Edge horizontal Female 1.6mm; Manufacturer: Telegaertner; Sort: 610; Tech: THDM; Manufacturer No: J01151A0451; Package: CNSMAEDGE2; Price: 0
signal-integrity model Model Name (Model Description)
footprint CNSMAPCBEDGE2 (SMA PCB edge female 2)
pins: 1, 2, 3

## CNSMAEDGE-3
designator J?, comment RSMA-EL-FS090-03
SMA connector PCB Edge horizontal Female 1.6mm; Manufacturer: Sunny Young Enterprise Co.Ltd.; Sort: 610; Tech: THDM; Manufacturer No: RSMA-EL-FS090-03; Package: CNSMAEDGE3; Price: 0
signal-integrity model Model Name (Model Description)
footprint CNSMAPCBEDGE3 (SMA PCB edge female EL-FS090-03)
pins: 1, 2, 3

## CNSMAPCBH-1
designator K?, comment J01151A0201
SMA connector PCB horiz. female R5mm h10.5mm; Manufacturer: Telegartner; Sort: 610; Tech: THDW; Manufacturer No: J01151A0201; Package: CN SMA horiz pcb; Price: 0
signal-integrity model Model Name (Model Description)
footprint CNSMAPCBH-1
pins: 1, 2, 3, 4, 5

## CNSMAPCBH-2
designator K?, comment J01151A0921
SMA connector PCB horiz. female R5mm h10.5mm; Manufacturer: Telegartner; Comment2: l=29.5mm; Sort: 610; Tech: THDW; Manufacturer No: J01151A0921; Package: CN SMA horiz pcb; Price: 0
signal-integrity model Model Name (Model Description)
footprint CNSMAPCBH-2 (SMA connector PCB horizontal R5.0mm L=29.5mm)
pins: 1, 2, 3, 4, 5

## CNSMAPCBV-1
designator K?, comment J01151A0931
SMA connector female PCB vert. female R5mm h13.5mm; Manufacturer: Telegartner; Sort: 610; Tech: THDW; Manufacturer No: J01151A0931; Package: CN SMA vert; Price: 0
signal-integrity model Model Name (Model Description)
footprint CNSMAPCBV (SMA connector PCB vertical R5.0mm)
pins: 1, 2, 3, 4, 5

## CNSMAPCBV-2
designator J?, comment S-P215-1T-NGT-R
SMA connector female PCB vert. female R5mm h7.58mm; Manufacturer: Taitek; Comment2: 50R; Sort: 610; Tech: THDW; Manufacturer No: S-P215-1T-NGT-R; Package: CN SMA vert; Price: 0
signal-integrity model Model Name (Model Description)
footprint CNSMAPCBV-2 (SMA connector PCB vertical R5.0mm SMD PinInPaste)
pins: 1, 2, 3, 4, 5

## CNSMAPCBV-3
designator J?, comment 5-1814832-1
SMA connector female PCB vert. female h7.8mm; Manufacturer: Tyco Electronics; Comment2: 50R; Sort: 610; Tech: THDW; Manufacturer No: 5-1814832-1; Package: CN SMA vert 7x7mm; Price: 0
signal-integrity model Model Name (Model Description)
footprint CNSMAPCBV-2 (SMA connector PCB vertical R5.0mm SMD PinInPaste)
pins: 1, 2, 3, 4, 5

## CNSMBPCBH-1
designator K?, comment SMB hor 75R
SMB connector male PCB vert.R5.08mm h7.5mm; Manufacturer No: 415490-1; Manufacturer: Tyco; Comment2: SMB 75R; Sort: 610; Tech: THDW; Package: CN SMB vertical THT; Price: 0
signal-integrity model Model Name (Model Description)
footprint CNSMBPCBH-1 (SMB connector PCB horizontal R5.08mm THT)
pins: 1, 2, 3, 4, 5

## CNSMBPCBV-1
designator K?, comment S1-P215-75R
SMB connector male PCB vert.R5.08mm h7.5mm; Manufacturer No: S1-P215-75OHM; Manufacturer: Taitek Components; Comment2: SMB 75R; Sort: 610; Tech: THDW; Package: CN SMB vertical THT; Price: 0
signal-integrity model Model Name (Model Description)
footprint CNSMBPCBV-1 (SMB connector PCB vertical R5.0mm THT)
pins: 1, 2, 3, 4, 5

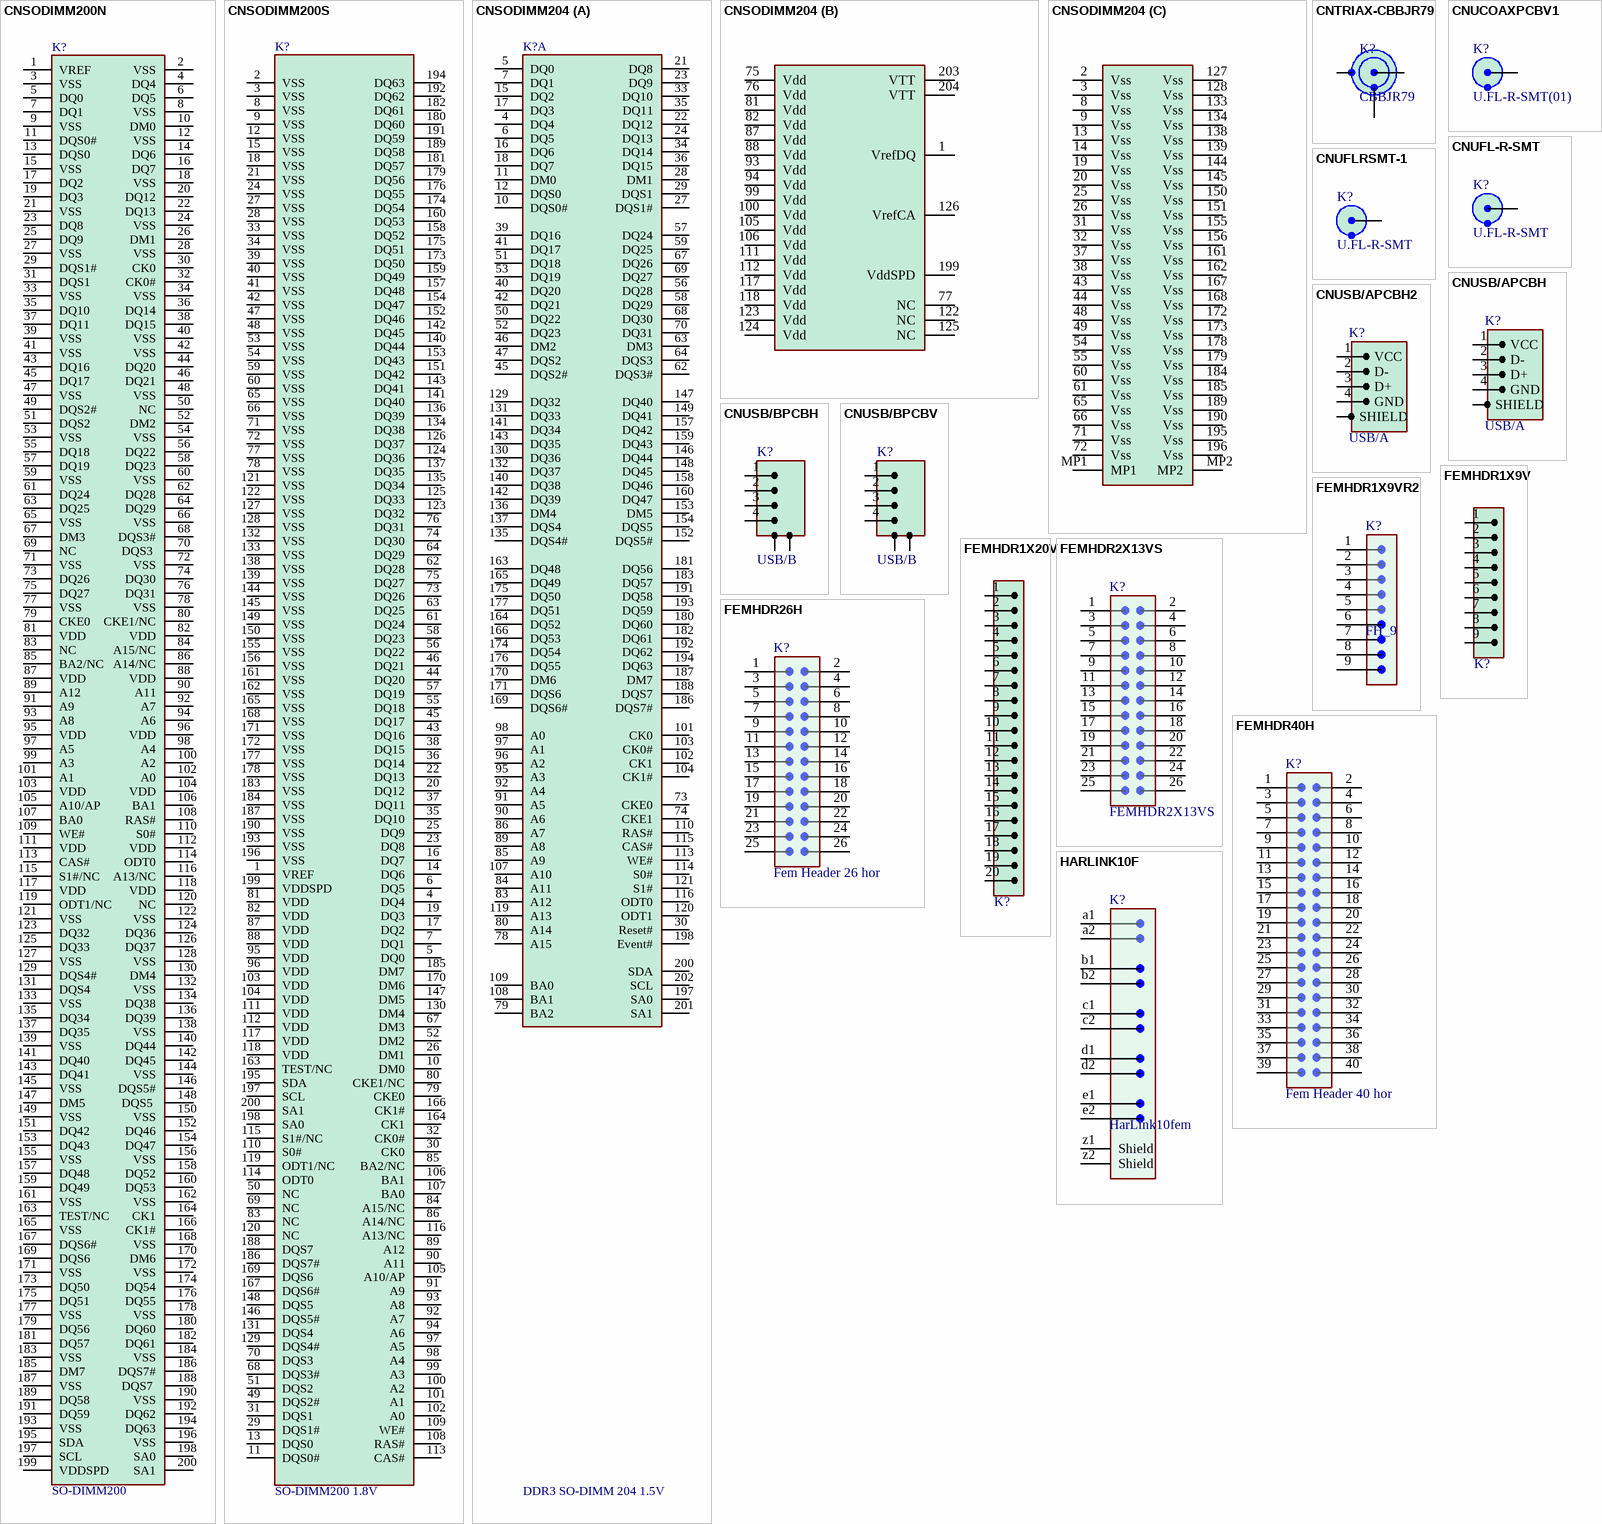
[diagram p14: symbols CNSODIMM200N to HARLINK10F]

## CNSODIMM200N
designator K?, comment SO-DIMM200
SO-DIMM 200pin DDR2 ram connector; Sort: 610; Tech: THDW; Price: 0
signal-integrity model Model Name (Model Description)
pins: 1 VREF, 2 VSS, 3 VSS, 4 DQ4, 5 DQ0, 6 DQ5, 7 DQ1, 8 VSS, 9 VSS, 10 DM0, 11 DQS0#, 12 VSS, 13 DQS0, 14 DQ6, 15 VSS, 16 DQ7, 17 DQ2, 18 VSS, 19 DQ3, 20 DQ12, 21 VSS, 22 DQ13, 23 DQ8, 24 VSS, 25 DQ9, 26 DM1, 27 VSS, 28 VSS, 29 DQS1#, 30 CK0, 31 DQS1, 32 CK0#, 33 VSS, 34 VSS, 35 DQ10, 36 DQ14, 37 DQ11, 38 DQ15, 39 VSS, 40 VSS, 41 VSS, 42 VSS, 43 DQ16, 44 DQ20, 45 DQ17, 46 DQ21, 47 VSS, 48 VSS, 49 DQS2#, 50 NC, 51 DQS2, 52 DM2, 53 VSS, 54 VSS, 55 DQ18, 56 DQ22, 57 DQ19, 58 DQ23, 59 VSS, 60 VSS, 61 DQ24, 62 DQ28, 63 DQ25, 64 DQ29, 65 VSS, 66 VSS, 67 DM3, 68 DQS3#, 69 NC, 70 DQS3 , 71 VSS, 72 VSS, 73 DQ26, 74 DQ30, 75 DQ27, 76 DQ31, 77 VSS, 78 VSS, 79 CKE0, 80 CKE1/NC, 81 VDD, 82 VDD, 83 NC, 84 A15/NC, 85 BA2/NC, 86 A14/NC, 87 VDD, 88 VDD, 89 A12, 90 A11, 91 A9, 92 A7, 93 A8, 94 A6, 95 VDD, 96 VDD, 97 A5, 98 A4, 99 A3, 100 A2, 101 A1 , 102 A0, 103 VDD, 104 VDD, 105 A10/AP, 106 BA1, 107 BA0, 108 RAS#, 109 WE#, 110 S0#, 111 VDD, 112 VDD, 113 CAS#, 114 ODT0, 115 S1#/NC, 116 A13/NC, 117 VDD, 118 VDD, 119 ODT1/NC, 120 NC, 121 VSS, 122 VSS, 123 DQ32, 124 DQ36, 125 DQ33, 126 DQ37, 127 VSS, 128 VSS, 129 DQS4#, 130 DM4, 131 DQS4 , 132 VSS, 133 VSS, 134 DQ38, 135 DQ34, 136 DQ39, 137 DQ35, 138 VSS, 139 VSS, 140 DQ44, 141 DQ40, 142 DQ45, 143 DQ41, 144 VSS, 145 VSS, 146 DQS5#, 147 DM5, 148 DQS5 , 149 VSS, 150 VSS, 151 DQ42, 152 DQ46, 153 DQ43, 154 DQ47, 155 VSS, 156 VSS, 157 DQ48, 158 DQ52, 159 DQ49, 160 DQ53, 161 VSS, 162 VSS, 163 TEST/NC, 164 CK1, 165 VSS, 166 CK1#, 167 DQS6#, 168 VSS, 169 DQS6 , 170 DM6, 171 VSS, 172 VSS, 173 DQ50, 174 DQ54, 175 DQ51, 176 DQ55, 177 VSS, 178 VSS, 179 DQ56, 180 DQ60, 181 DQ57, 182 DQ61, 183 VSS, 184 VSS, 185 DM7, 186 DQS7#, 187 VSS, 188 DQS7 , 189 DQ58, 190 VSS, 191 DQ59, 192 DQ62, 193 VSS, 194 DQ63, 195 SDA, 196 VSS, 197 SCL, 198 SA0, 199 VDDSPD, 200 SA1

## CNSODIMM200S
designator K?, comment SO-DIMM200 1.8V
SO-DIMM 200pin DDR2 ram connector 1.8V; Manufacturer: Tyco Electronics; Manufacturer No: 1473006-4; Sort: 610; Tech: THDW; Package: Conn SODIMM200; Price: 0
signal-integrity model Model Name (Model Description)
pins: 1 VREF, 2 VSS, 3 VSS, 4 DQ4, 5 DQ0, 6 DQ5, 7 DQ1, 8 VSS, 9 VSS, 10 DM0, 11 DQS0#, 12 VSS, 13 DQS0, 14 DQ6, 15 VSS, 16 DQ7, 17 DQ2, 18 VSS, 19 DQ3, 20 DQ12, 21 VSS, 22 DQ13, 23 DQ8, 24 VSS, 25 DQ9, 26 DM1, 27 VSS, 28 VSS, 29 DQS1#, 30 CK0, 31 DQS1, 32 CK0#, 33 VSS, 34 VSS, 35 DQ10, 36 DQ14, 37 DQ11, 38 DQ15, 39 VSS, 40 VSS, 41 VSS, 42 VSS, 43 DQ16, 44 DQ20, 45 DQ17, 46 DQ21, 47 VSS, 48 VSS, 49 DQS2#, 50 NC, 51 DQS2, 52 DM2, 53 VSS, 54 VSS, 55 DQ18, 56 DQ22, 57 DQ19, 58 DQ23, 59 VSS, 60 VSS, 61 DQ24, 62 DQ28, 63 DQ25, 64 DQ29, 65 VSS, 66 VSS, 67 DM3, 68 DQS3#, 69 NC, 70 DQS3 , 71 VSS, 72 VSS, 73 DQ26, 74 DQ30, 75 DQ27, 76 DQ31, 77 VSS, 78 VSS, 79 CKE0, 80 CKE1/NC, 81 VDD, 82 VDD, 83 NC, 84 A15/NC, 85 BA2/NC, 86 A14/NC, 87 VDD, 88 VDD, 89 A12, 90 A11, 91 A9, 92 A7, 93 A8, 94 A6, 95 VDD, 96 VDD, 97 A5, 98 A4, 99 A3, 100 A2, 101 A1, 102 A0, 103 VDD, 104 VDD, 105 A10/AP, 106 BA1, 107 BA0, 108 RAS#, 109 WE#, 110 S0#, 111 VDD, 112 VDD, 113 CAS#, 114 ODT0, 115 S1#/NC, 116 A13/NC, 117 VDD, 118 VDD, 119 ODT1/NC, 120 NC, 121 VSS, 122 VSS, 123 DQ32, 124 DQ36, 125 DQ33, 126 DQ37, 127 VSS, 128 VSS, 129 DQS4#, 130 DM4, 131 DQS4 , 132 VSS, 133 VSS, 134 DQ38, 135 DQ34, 136 DQ39, 137 DQ35, 138 VSS, 139 VSS, 140 DQ44, 141 DQ40, 142 DQ45, 143 DQ41, 144 VSS, 145 VSS, 146 DQS5#, 147 DM5, 148 DQS5 , 149 VSS, 150 VSS, 151 DQ42, 152 DQ46, 153 DQ43, 154 DQ47, 155 VSS, 156 VSS, 157 DQ48, 158 DQ52, 159 DQ49, 160 DQ53, 161 VSS, 162 VSS, 163 TEST/NC, 164 CK1, 165 VSS, 166 CK1#, 167 DQS6#, 168 VSS, 169 DQS6 , 170 DM6, 171 VSS, 172 VSS, 173 DQ50, 174 DQ54, 175 DQ51, 176 DQ55, 177 VSS, 178 VSS, 179 DQ56, 180 DQ60, 181 DQ57, 182 DQ61, 183 VSS, 184 VSS, 185 DM7, 186 DQS7#, 187 VSS, 188 DQS7 , 189 DQ58, 190 VSS, 191 DQ59, 192 DQ62, 193 VSS, 194 DQ63, 195 SDA, 196 VSS, 197 SCL, 198 SA0, 199 VDDSPD, 200 SA1

## CNSODIMM204
designator K?, comment DDR3 SO-DIMM 204 1.5V
SO-DIMM 204pin DDR3 ram connector 1.5V; Manufacturer: Foxconn; Manufacturer No: AS0A626-U2SN-7F; Sort: 610; Tech: THDW; Package: Conn SODIMM204; Price: 0
signal-integrity model Model Name (Model Description)
footprint CNSODIMM204-1V5STD (Foxconn)
part A pins: 4 DQ4, 5 DQ0, 6 DQ5, 7 DQ1, 10 DQS0#, 11 DM0, 12 DQS0, 15 DQ2, 16 DQ6, 17 DQ3, 18 DQ7, 21 DQ8, 22 DQ12, 23 DQ9, 24 DQ13, 27 DQS1#, 28 DM1, 29 DQS1, 30 Reset#, 33 DQ10, 34 DQ14, 35 DQ11, 36 DQ15, 39 DQ16, 40 DQ20, 41 DQ17, 42 DQ21, 45 DQS2#, 46 DM2, 47 DQS2, 50 DQ22, 51 DQ18, 52 DQ23, 53 DQ19, 56 DQ28, 57 DQ24, 58 DQ29, 59 DQ25, 62 DQS3#, 63 DM3, 64 DQS3, 67 DQ26, 68 DQ30, 69 DQ27, 70 DQ31, 73 CKE0, 74 CKE1, 78 A15, 79 BA2, 80 A14, 83 A12, 84 A11, 85 A9, 86 A7, 89 A8, 90 A6, 91 A5, 92 A4, 95 A3, 96 A2, 97 A1, 98 A0, 101 CK0, 102 CK1, 103 CK0#, 104 CK1#, 107 A10, 108 BA1, 109 BA0, 110 RAS#, 113 WE#, 114 S0#, 115 CAS#, 116 ODT0, 119 A13, 120 ODT1, 121 S1#, 129 DQ32, 130 DQ36, 131 DQ33, 132 DQ37, 135 DQS4#, 136 DM4, 137 DQS4, 140 DQ38, 141 DQ34, 142 DQ39, 143 DQ35, 146 DQ44, 147 DQ40, 148 DQ45, 149 DQ41, 152 DQS5#, 153 DM5, 154 DQS5, 157 DQ42, 158 DQ46, 159 DQ43, 160 DQ47, 163 DQ48, 164 DQ52, 165 DQ49, 166 DQ53, 169 DQS6#, 170 DM6, 171 DQS6, 174 DQ54, 175 DQ50, 176 DQ55, 177 DQ51, 180 DQ60, 181 DQ56, 182 DQ61, 183 DQ57, 186 DQS7#, 187 DM7, 188 DQS7, 191 DQ58, 192 DQ62, 193 DQ59, 194 DQ63, 197 SA0, 198 Event#, 200 SDA, 201 SA1, 202 SCL
part B pins: 1 VrefDQ, 75 Vdd, 76 Vdd, 77 NC, 81 Vdd, 82 Vdd, 87 Vdd, 88 Vdd, 93 Vdd, 94 Vdd, 99 Vdd, 100 Vdd, 105 Vdd, 106 Vdd, 111 Vdd, 112 Vdd, 117 Vdd, 118 Vdd, 122 NC, 123 Vdd, 124 Vdd, 125 NC, 126 VrefCA, 199 VddSPD, 203 VTT, 204 VTT
part C pins: 2 Vss, 3 Vss, 8 Vss, 9 Vss, 13 Vss, 14 Vss, 19 Vss, 20 Vss, 25 Vss, 26 Vss, 31 Vss, 32 Vss, 37 Vss, 38 Vss, 43 Vss, 44 Vss, 48 Vss, 49 Vss, 54 Vss, 55 Vss, 60 Vss, 61 Vss, 65 Vss, 66 Vss, 71 Vss, 72 Vss, 127 Vss, 128 Vss, 133 Vss, 134 Vss, 138 Vss, 139 Vss, 144 Vss, 145 Vss, 150 Vss, 151 Vss, 155 Vss, 156 Vss, 161 Vss, 162 Vss, 167 Vss, 168 Vss, 172 Vss, 173 Vss, 178 Vss, 179 Vss, 184 Vss, 185 Vss, 189 Vss, 190 Vss, 195 Vss, 196 Vss, MP1, MP2

## CNTRIAX-CBBJR79
designator K?, comment CBBJR79
Triax/Twinax Miniature Circuit Board Jacks 70/370 Series, 3 lug; Manufacturer: Trompeter; Comment2: 3-LUG; Sort: 610; Tech: THDW; Manufacturer No: CBBJR79; Price: 0
footprint CNTRIAX-CBBJR79 (Triax/Twinax Right Angle connector)
pins: 1, 2, 3, 4, 5, 6

## CNUCOAXPCBV1
designator K?, comment U.FL-R-SMT(01)
SMA connector PCB Edge horizontal Female 1.6mm; Manufacturer No: U.FL-R-SMT(10), 1688077; Manufacturer: Hirose, Farnell; Sort: 610; Tech: THDM; Package: CN uCOAX; Price: 0
signal-integrity model Model Name (Model Description)
footprint CN_MICROCOAXPCBV1 (Micro coax pcb connector SMD)
pins: 1, 2, 3

## CNUFL-R-SMT
designator K?, comment U.FL-R-SMT
Ultra Small Surface Mount Coaxial Connector vertical R1.27mm; Manufacturer: Hirose Sales Representative; Manufacturer No: 331-0471-0-01; Comment2: 1.25mm above PCB; Sort: 610; Tech: SMD; Package: U.FL-R-SMT; Price: 0
footprint CNUSSMCC1 (Ultra Small Surface Mount Coaxial Connector)
pins: 1, 2, 3

## CNUFLRSMT-1
designator K?, comment U.FL-R-SMT
RF connector PCB vert. male 3x3mm 6GHz ultra small; Manufacturer No: 331-0471-0-10; Manufacturer: Hirose; Sort: 610; Tech: THDW; Price: 0
signal-integrity model Model Name (Model Description)
footprint CNUFLRSMT-1 (ultra small RF connector 3x3.1mm)
pins: 1, 2, 3

## CNUSB/APCBH
designator K?, comment USB/A
Connector USB A PCB horizontal; Manufacturer No: Y99000; Manufacturer: Shallin; Sort: 610; Tech: THDW; Price: 0
footprint USBA-1 (USB/A PCB horiz. connector)
pins: 1 VCC, 2 D-, 3 D+, 4 GND, MH1 SHIELD, MH2 GND

## CNUSB/APCBH2
designator K?, comment USB/A
Connector USB A PCB vertical/horiz.; Manufacturer No: UBAU-04SW112R; Manufacturer: Taitek(Codico); Sort: 610; Tech: THDW; Package: Conn USB A hor/vert; Price: 0
footprint USBA-2 (USB/A PCB vert/horiz. connector)
pins: 1 VCC, 2 D-, 3 D+, 4 GND, MH1 SHIELD, MH2 GND, MH3 GND, MH4 GND

## CNUSB/BPCBH
designator K?, comment USB/B
Connector USB A PCB horizontal; Manufacturer No: 292304-1; Manufacturer: Tyco; Sort: 610; Tech: THDW; Price: 0
footprint USBB-1 (USB/B PCB horiz. connector)
pins: 1 VCC, 2 D-, 3 D+, 4 GND, MH1 GND, MH2 GND

## CNUSB/BPCBV
designator K?, comment USB/B
Connector USB A PCB horizontal; Manufacturer No: 292304-1; Manufacturer: Tyco; Sort: 610; Tech: THDW; Price: 0
footprint USBB-1V (USB/B PCB vert. connector)
pins: 1 VCC, 2 D-, 3 D+, 4 GND, MH1 GND, MH2 GND

## FEMHDR1X9V
designator K?, comment FEMHDR1X9  (value not drawn)
Pin Header 1x9 R2.54mm female; Sort: 610; Tech: THDW; Price: 0
footprint FEMHDR1X9
pins: 1, 2, 3, 4, 5, 6, 7, 8, 9

## FEMHDR1X9VR2
designator K?, comment FH_9
Connector 9 pin low profile vertical female; Manufacturer No: PS2S40-1_9_T_B-L; Manufacturer: Amtek; Comment2: 4.0mm 9pin 1row R2.0mm; Sort: 610; Tech: THDW; Price: 0
signal-integrity model Model Name (Model Description)
footprint CNFH_9_R2.0 (Connector Low Profile Female Header, Thru-Hole; 9 pin; Vertical; R2.0 mm)
pins: 1, 2, 3, 4, 5, 6, 7, 8, 9

## FEMHDR1X20V
designator K?, comment FEMHDR1X20  (value not drawn)
Pin Header 1x20 R2.54mm female; Sort: 610; Tech: THDW; Price: 0
footprint FEMHDR1X20
pins: 1, 2, 3, 4, 5, 6, 7, 8, 9, 10, 11, 12, 13, 14, 15, 16, 17, 18, 19, 20

## FEMHDR2X13VS
designator K?
Connector female 26 pin vertical R2.54; Manufacturer: Taitek; Manufacturer No: FHD-26S1GN3R; Sort: 610; Tech: THDW; Package: Conn 26pin hor.; Price: 0
signal-integrity model Model Name (Model Description)
footprint FEMHDR2X13VS (Connector IDC Low Profile Female Header, SMD; 26 pin; Vertical; R2.54 mm)
pins: 1, 2, 3, 4, 5, 6, 7, 8, 9, 10, 11, 12, 13, 14, 15, 16, 17, 18, 19, 20, 21, 22, 23, 24, 25, 26
1 alternate drawing of the same symbol

## FEMHDR26H
designator K?, comment Fem Header 26 hor
Connector female 26 pin right angle R2.54; Manufacturer: Amtek Technology, MpeGarry; Manufacturer No: PS1R85-213 O O-L, BL2-85AGG-26U; Sort: 610; Tech: THDW; Package: Conn 26pin hor.; Price: 0
signal-integrity model Model Name (Model Description)
footprint FEMHDR26H (Connector IDC Low Profile Female Header, Thru-Hole; 26 pin; Horizontal; R2.54 mm)
pins: 1, 2, 3, 4, 5, 6, 7, 8, 9, 10, 11, 12, 13, 14, 15, 16, 17, 18, 19, 20, 21, 22, 23, 24, 25, 26
1 alternate drawing of the same symbol

## FEMHDR40H
designator K?, comment Fem Header 40 hor
Connector female header 40 pin right angle 2.54; Manufacturer: Amtek Technology, MpeGarry; Manufacturer No: PS1R85-220 O O-L, BL2-85AGG-40U; Sort: 610; Tech: THDW; Package: Conn 40pin hor.; Price: 0
signal-integrity model Model Name (Model Description)
footprint FEMHDR40H (Connector IDC Low Profile Female Header, Thru-Hole; 40 pin; Horizontal; R2.54 mm; Body 51.05 x 11.65 x 5 mm (LxWxH))
pins: 1, 2, 3, 4, 5, 6, 7, 8, 9, 10, 11, 12, 13, 14, 15, 16, 17, 18, 19, 20, 21, 22, 23, 24, 25, 26, 27, 28, 29, 30, 31, 32, 33, 34, 35, 36, 37, 38, 39, 40
1 alternate drawing of the same symbol

## HARLINK10F
designator K?, comment HarLink10fem
HarLink 10pin female pcb horizontal; Manufacturer: Harting; Manufacturer No: 27211218000; Sort: 610; Tech: THDW; Package: CNHL10FH; Price: 0
signal-integrity model Model Name (Model Description)
footprint HARLINK10FH (HarLink 10pin female hor.)
pins: a1, a2, b1, b2, c1, c2, d1, d2, e1, e2, z1 Shield, z2 Shield

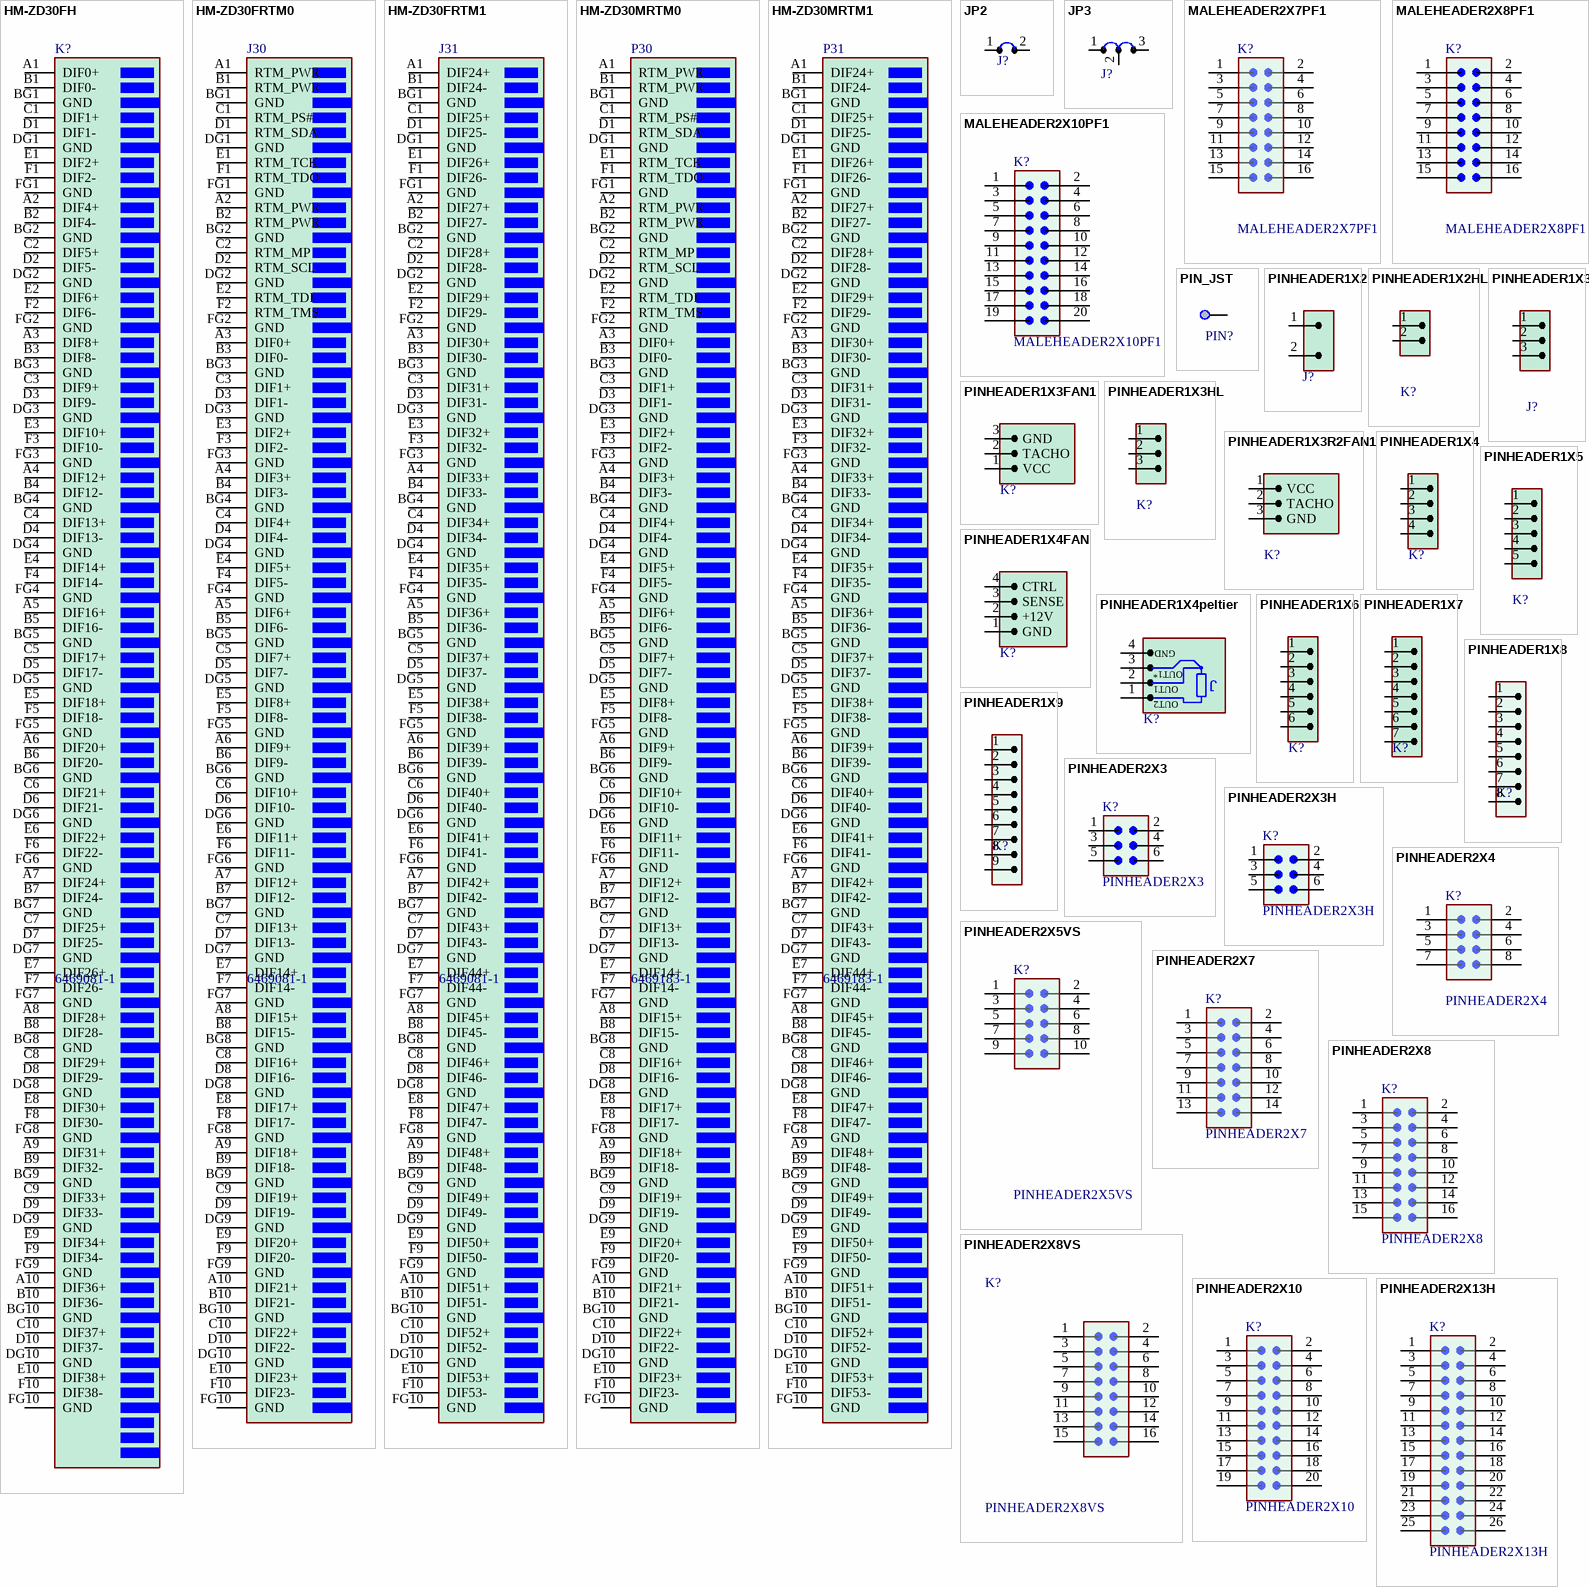
[diagram p15: symbols HM-ZD30FH to PINHEADER2X13H]

## HM-ZD30FH
designator K?, comment 6469081-1
HM-Zd female horizontal 30 shielded pairs R2.5mm; Manufacturer: Tyco, Farnell; Manufacturer No: 6469081-1,; Sort: 610; Tech: PFIT; Package: Conn. 30pairs female; Price: 0
signal-integrity model Model Name (Model Description)
footprint CNATCAZ2-30FH (ATCA Zone 2 30 shielded pairs female horizontal daughterboard)
pins: A1 DIF0+, A2 DIF4+, A3 DIF8+, A4 DIF12+, A5 DIF16+, A6 DIF20+, A7 DIF24+, A8 DIF28+, A9 DIF31+, A10 DIF36+, B1 DIF0-, B2 DIF4-, B3 DIF8-, B4 DIF12-, B5 DIF16-, B6 DIF20-, B7 DIF24-, B8 DIF28-, B9 DIF32-, B10 DIF36-, BG1 GND (power), BG2 GND (power), BG3 GND (power), BG4 GND (power), BG5 GND (power), BG6 GND (power), BG7 GND (power), BG8 GND (power), BG9 GND (power), BG10 GND (power), C1 DIF1+, C2 DIF5+, C3 DIF9+, C4 DIF13+, C5 DIF17+, C6 DIF21+, C7 DIF25+, C8 DIF29+, C9 DIF33+, C10 DIF37+, D1 DIF1-, D2 DIF5-, D3 DIF9-, D4 DIF13-, D5 DIF17-, D6 DIF21-, D7 DIF25-, D8 DIF29-, D9 DIF33-, D10 DIF37-, DG1 GND (power), DG2 GND (power), DG3 GND (power), DG4 GND (power), DG5 GND (power), DG6 GND (power), DG7 GND (power), DG8 GND (power), DG9 GND (power), DG10 GND (power), E1 DIF2+, E2 DIF6+, E3 DIF10+, E4 DIF14+, E5 DIF18+, E6 DIF22+, E7 DIF26+, E8 DIF30+, E9 DIF34+, E10 DIF38+, F1 DIF2-, F2 DIF6-, F3 DIF10-, F4 DIF14-, F5 DIF18-, F6 DIF22-, F7 DIF26-, F8 DIF30-, F9 DIF34-, F10 DIF38-, FG1 GND (power), FG2 GND (power), FG3 GND (power), FG4 GND (power), FG5 GND (power), FG6 GND (power), FG7 GND (power), FG8 GND (power), FG9 GND (power), FG10 GND (power)

## HM-ZD30FRTM0
designator J30, comment 6469081-1
HM-Zd female horizontal 30 shielded pairs R2.5mm (on AMC); Manufacturer: Tyco, Farnell; Manufacturer No: 6469081-1,; Sort: 610; Tech: PFIT; Package: Conn. 30pairs female; Price: 0
signal-integrity model Model Name (Model Description)
footprint CNATCAZ2-30FH (ATCA Zone 2 30 shielded pairs female horizontal daughterboard)
pins: A1 RTM_PWR, A2 RTM_PWR, A3 DIF0+, A4 DIF3+, A5 DIF6+, A6 DIF9+, A7 DIF12+, A8 DIF15+, A9 DIF18+, A10 DIF21+, B1 RTM_PWR, B2 RTM_PWR, B3 DIF0-, B4 DIF3-, B5 DIF6-, B6 DIF9-, B7 DIF12-, B8 DIF15-, B9 DIF18-, B10 DIF21-, BG1 GND (power), BG2 GND (power), BG3 GND (power), BG4 GND (power), BG5 GND (power), BG6 GND (power), BG7 GND (power), BG8 GND (power), BG9 GND (power), BG10 GND (power), C1 RTM_PS#, C2 RTM_MP, C3 DIF1+, C4 DIF4+, C5 DIF7+, C6 DIF10+, C7 DIF13+, C8 DIF16+, C9 DIF19+, C10 DIF22+, D1 RTM_SDA, D2 RTM_SCL, D3 DIF1-, D4 DIF4-, D5 DIF7-, D6 DIF10-, D7 DIF13-, D8 DIF16-, D9 DIF19-, D10 DIF22-, DG1 GND (power), DG2 GND (power), DG3 GND (power), DG4 GND (power), DG5 GND (power), DG6 GND (power), DG7 GND (power), DG8 GND (power), DG9 GND (power), DG10 GND (power), E1 RTM_TCK, E2 RTM_TDI, E3 DIF2+, E4 DIF5+, E5 DIF8+, E6 DIF11+, E7 DIF14+, E8 DIF17+, E9 DIF20+, E10 DIF23+, F1 RTM_TDO, F2 RTM_TMS, F3 DIF2-, F4 DIF5-, F5 DIF8-, F6 DIF11-, F7 DIF14-, F8 DIF17-, F9 DIF20-, F10 DIF23-, FG1 GND (power), FG2 GND (power), FG3 GND (power), FG4 GND (power), FG5 GND (power), FG6 GND (power), FG7 GND (power), FG8 GND (power), FG9 GND (power), FG10 GND (power)

## HM-ZD30FRTM1
designator J31, comment 6469081-1
HM-Zd female horizontal 30 shielded pairs R2.5mm (on AMC); Manufacturer: Tyco; Sort: 610; Tech: PFIT; Manufacturer No: 6469081-1; Package: Conn. 30pairs female; Price: 0
signal-integrity model Model Name (Model Description)
footprint CNATCAZ2-30FH (ATCA Zone 2 30 shielded pairs female horizontal daughterboard)
pins: A1 DIF24+, A2 DIF27+, A3 DIF30+, A4 DIF33+, A5 DIF36+, A6 DIF39+, A7 DIF42+, A8 DIF45+, A9 DIF48+, A10 DIF51+, B1 DIF24-, B2 DIF27-, B3 DIF30-, B4 DIF33-, B5 DIF36-, B6 DIF39-, B7 DIF42-, B8 DIF45-, B9 DIF48-, B10 DIF51-, BG1 GND (power), BG2 GND (power), BG3 GND (power), BG4 GND (power), BG5 GND (power), BG6 GND (power), BG7 GND (power), BG8 GND (power), BG9 GND (power), BG10 GND (power), C1 DIF25+, C2 DIF28+, C3 DIF31+, C4 DIF34+, C5 DIF37+, C6 DIF40+, C7 DIF43+, C8 DIF46+, C9 DIF49+, C10 DIF52+, D1 DIF25-, D2 DIF28-, D3 DIF31-, D4 DIF34-, D5 DIF37-, D6 DIF40-, D7 DIF43-, D8 DIF46-, D9 DIF49-, D10 DIF52-, DG1 GND (power), DG2 GND (power), DG3 GND (power), DG4 GND (power), DG5 GND (power), DG6 GND (power), DG7 GND (power), DG8 GND (power), DG9 GND (power), DG10 GND (power), E1 DIF26+, E2 DIF29+, E3 DIF32+, E4 DIF35+, E5 DIF38+, E6 DIF41+, E7 DIF44+, E8 DIF47+, E9 DIF50+, E10 DIF53+, F1 DIF26-, F2 DIF29-, F3 DIF32-, F4 DIF35-, F5 DIF38-, F6 DIF41-, F7 DIF44-, F8 DIF47-, F9 DIF50-, F10 DIF53-, FG1 GND (power), FG2 GND (power), FG3 GND (power), FG4 GND (power), FG5 GND (power), FG6 GND (power), FG7 GND (power), FG8 GND (power), FG9 GND (power), FG10 GND (power)

## HM-ZD30MRTM0
designator P30, comment 6469183-1
HM-Zd male horizontal 30 shielded pairs R2.5mm; Manufacturer: Tyco; Sort: 610; Tech: PFIT; Manufacturer No: 6469183-1; Package: Conn. 30pairs male; Price: 0
signal-integrity model Model Name (Model Description)
footprint CNATCAZ2-30MH (ATCA Zone 2 30 shielded pairs male horizontal)
pins: A1 RTM_PWR, A2 RTM_PWR, A3 DIF0+, A4 DIF3+, A5 DIF6+, A6 DIF9+, A7 DIF12+, A8 DIF15+, A9 DIF18+, A10 DIF21+, B1 RTM_PWR, B2 RTM_PWR, B3 DIF0-, B4 DIF3-, B5 DIF6-, B6 DIF9-, B7 DIF12-, B8 DIF15-, B9 DIF18-, B10 DIF21-, BG1 GND (power), BG2 GND (power), BG3 GND (power), BG4 GND (power), BG5 GND (power), BG6 GND (power), BG7 GND (power), BG8 GND (power), BG9 GND (power), BG10 GND (power), C1 RTM_PS#, C2 RTM_MP, C3 DIF1+, C4 DIF4+, C5 DIF7+, C6 DIF10+, C7 DIF13+, C8 DIF16+, C9 DIF19+, C10 DIF22+, D1 RTM_SDA, D2 RTM_SCL, D3 DIF1-, D4 DIF4-, D5 DIF7-, D6 DIF10-, D7 DIF13-, D8 DIF16-, D9 DIF19-, D10 DIF22-, DG1 GND (power), DG2 GND (power), DG3 GND (power), DG4 GND (power), DG5 GND (power), DG6 GND (power), DG7 GND (power), DG8 GND (power), DG9 GND (power), DG10 GND (power), E1 RTM_TCK, E2 RTM_TDI, E3 DIF2+, E4 DIF5+, E5 DIF8+, E6 DIF11+, E7 DIF14+, E8 DIF17+, E9 DIF20+, E10 DIF23+, F1 RTM_TDO, F2 RTM_TMS, F3 DIF2-, F4 DIF5-, F5 DIF8-, F6 DIF11-, F7 DIF14-, F8 DIF17-, F9 DIF20-, F10 DIF23-, FG1 GND (power), FG2 GND (power), FG3 GND (power), FG4 GND (power), FG5 GND (power), FG6 GND (power), FG7 GND (power), FG8 GND (power), FG9 GND (power), FG10 GND (power)

## HM-ZD30MRTM1
designator P31, comment 6469183-1
HM-Zd male horizontal 30 shielded pairs R2.5mm; Manufacturer: Tyco; Sort: 610; Tech: PFIT; Manufacturer No: 6469183-1; Package: Conn. 30pairs male; Price: 0
signal-integrity model Model Name (Model Description)
footprint CNATCAZ2-30MH (ATCA Zone 2 30 shielded pairs male horizontal)
pins: A1 DIF24+, A2 DIF27+, A3 DIF30+, A4 DIF33+, A5 DIF36+, A6 DIF39+, A7 DIF42+, A8 DIF45+, A9 DIF48+, A10 DIF51+, B1 DIF24-, B2 DIF27-, B3 DIF30-, B4 DIF33-, B5 DIF36-, B6 DIF39-, B7 DIF42-, B8 DIF45-, B9 DIF48-, B10 DIF51-, BG1 GND (power), BG2 GND (power), BG3 GND (power), BG4 GND (power), BG5 GND (power), BG6 GND (power), BG7 GND (power), BG8 GND (power), BG9 GND (power), BG10 GND (power), C1 DIF25+, C2 DIF28+, C3 DIF31+, C4 DIF34+, C5 DIF37+, C6 DIF40+, C7 DIF43+, C8 DIF46+, C9 DIF49+, C10 DIF52+, D1 DIF25-, D2 DIF28-, D3 DIF31-, D4 DIF34-, D5 DIF37-, D6 DIF40-, D7 DIF43-, D8 DIF46-, D9 DIF49-, D10 DIF52-, DG1 GND (power), DG2 GND (power), DG3 GND (power), DG4 GND (power), DG5 GND (power), DG6 GND (power), DG7 GND (power), DG8 GND (power), DG9 GND (power), DG10 GND (power), E1 DIF26+, E2 DIF29+, E3 DIF32+, E4 DIF35+, E5 DIF38+, E6 DIF41+, E7 DIF44+, E8 DIF47+, E9 DIF50+, E10 DIF53+, F1 DIF26-, F2 DIF29-, F3 DIF32-, F4 DIF35-, F5 DIF38-, F6 DIF41-, F7 DIF44-, F8 DIF47-, F9 DIF50-, F10 DIF53-, FG1 GND (power), FG2 GND (power), FG3 GND (power), FG4 GND (power), FG5 GND (power), FG6 GND (power), FG7 GND (power), FG8 GND (power), FG9 GND (power), FG10 GND (power)

## JP2
designator J?, comment JUMPER_PIN2  (value not drawn)
Pinheader 1x2 R2.54mm vertical; Sort: 610; Tech: THDW; Package: CN PinHeader 1x2; Price: 0
footprint PINHDR1X2 (Pin header 1x2 pin R2.54mm)
pins: 1, 2

## JP3
designator J?, comment JUMPER_PIN3  (value not drawn)
Sort: 610; Tech: THDW; Price: 0
footprint PINHDR1X3 (Pin header 1x3 pin R2.54mm)
pins: 1, 2, 3

## MALEHEADER2X7PF1
designator K?
Male HEADER 2x7 R2.54mm Press fit; Manufacturer: Taitek; Manufacturer No: IDH-14SP1GN1R; Comment2: InR 3GR CnR 30mR 2A; Sort: 610; Tech: THDW; Package: Press fit; Price: 0
signal-integrity model Model Name (Model Description)
footprint MALEHDR2X7PF (Male header 2x7 pin R2.54mm press fit)
pins: 1, 2, 3, 4, 5, 6, 7, 8, 9, 10, 11, 12, 13, 14, 15, 16

## MALEHEADER2X8PF1
designator K?
Male HEADER 2x8 R2.54mm Press fit; Manufacturer: Taitek; Manufacturer No: IDH-16SP1GN1R; Comment2: InR 3GR CnR 30mR 2A; Sort: 610; Tech: THDW; Package: Press fit; Price: 0
signal-integrity model Model Name (Model Description)
footprint MALEHDR2X8PF (Male header 2x8 pin R2.54mm press fit)
pins: 1, 2, 3, 4, 5, 6, 7, 8, 9, 10, 11, 12, 13, 14, 15, 16

## MALEHEADER2X10PF1
designator K?
Male HEADER 2x10 R2.54mm Press fit; Manufacturer: Taitek; Manufacturer No: IDH-20SP1GN1R; Comment2: InR 3GR CnR 30mR 2A; Sort: 610; Tech: THDW; Package: Press fit; Price: 0
signal-integrity model Model Name (Model Description)
footprint MALEHDR2X10PF (Male header 2x10 pin R2.54mm press fit)
pins: 1, 2, 3, 4, 5, 6, 7, 8, 9, 10, 11, 12, 13, 14, 15, 16, 17, 18, 19, 20

## PIN_JST
designator PIN?  (value not drawn)
Contact pin for JST connectors; Manufacturer No: SPDH-002T-P0.5; Comment2: 28 to 24 AWG; Sort: 610; Manufacturer: JST; Price: 0
pins: MH1

## PINHEADER1X2
designator J?, comment JUMPER_PIN2  (value not drawn)
Sort: 610; Tech: THDW; Price: 0
footprint PINHDR1X2 (Pin header 1x2 pin R2.54mm)
pins: 1, 2